# Altium schematic symbol library Sch_GB_lib.SchLib: 489 symbols (part 4 of 5)
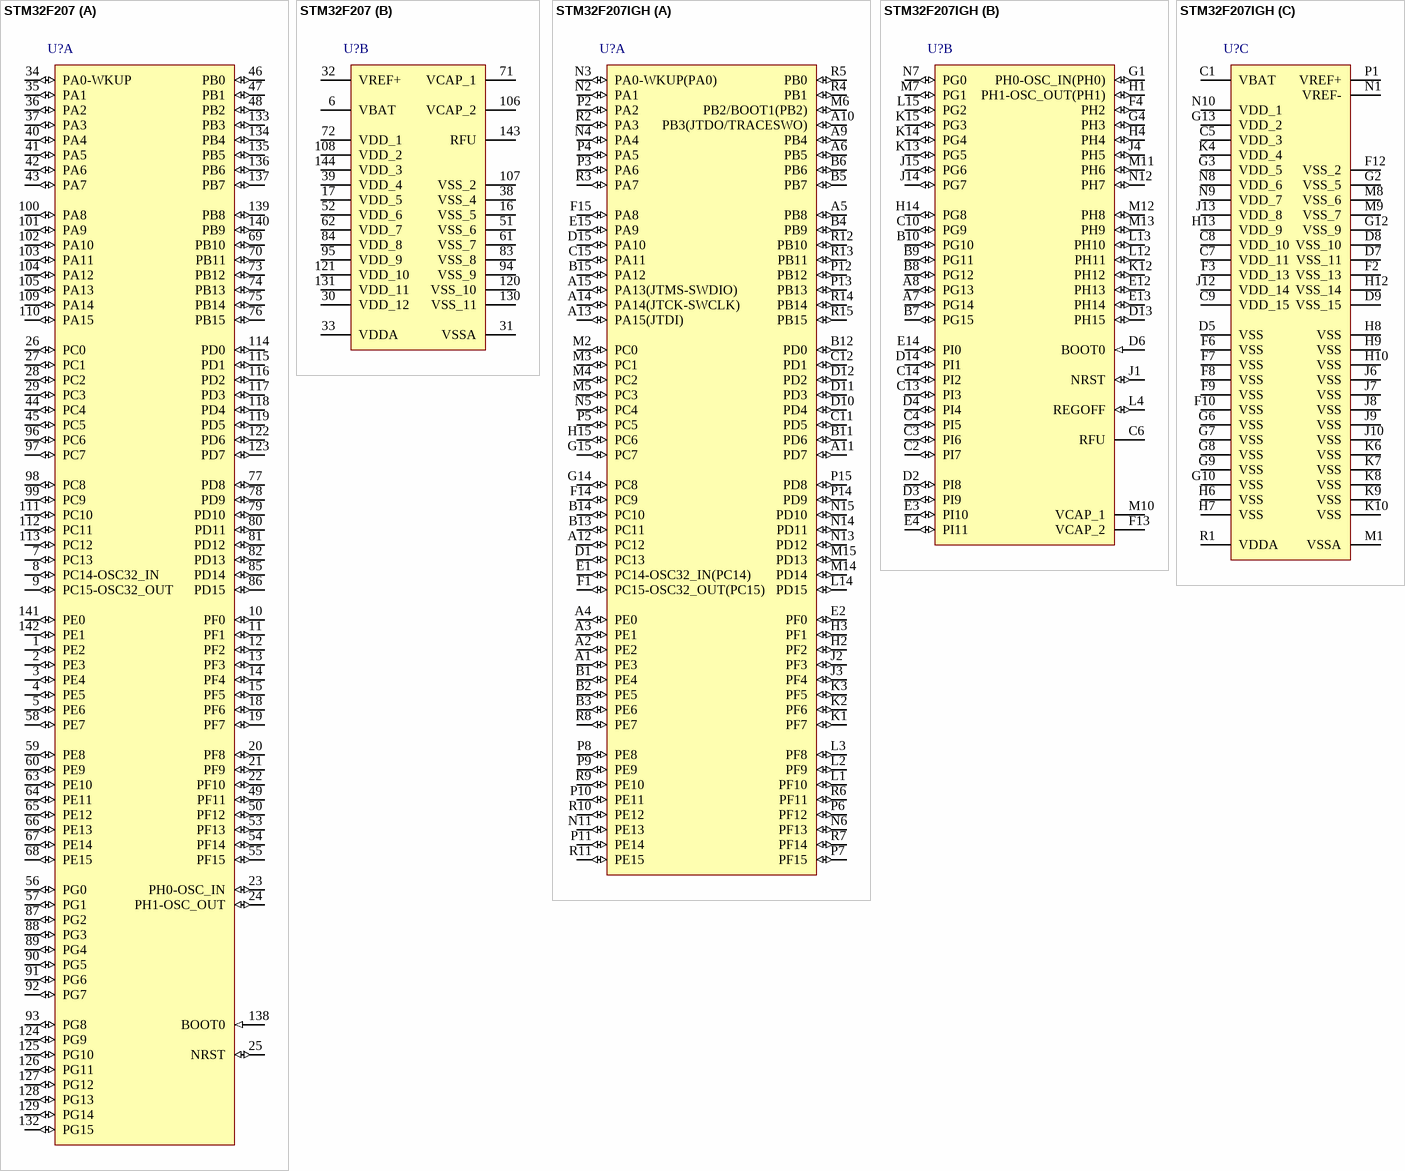
[diagram p20: symbols STM32F207 to STM32F207IGH]

## STM32F207IGH
designator U?
Digikey ref: 497-11168-ND; Farnell ref: 2215222; Digikey ref (secure): 497-11184-ND
footprint UFBGA176 (UFBGA176+25 - ultra thin fine pitch ball grid array 10 × 10 × 0.6 mm)
part A pins: A1 PE3 (io) "PE3/TRACED0/FSMC_A19/EVENTOUT", A2 PE2 (io) "PE2/TRACECLK/FSMC_A23/ETH_MII_TXD3/EVENTOUT", A3 PE1 (io) "PE1/FSMC_NBL1/DCMI_D3/EVENTOUT", A4 PE0 (io) "PE0/TIM4_ETR/FSMC_NBL0/DCMI_D2/EVENTOUT", A5 PB8 (io) "PB8/TIM4_CH3/SDIO_D4/TIM10_CH1/DCMI_D6/ETH_MII_TXD3/I2C1_SCL/CAN1_RX/EVENTOUT", A6 PB5 (io) "PB5/I2C1_SMBA/CAN2_RX/OTG_HS_ULPI_D7/ETH_PPS_OUT/TIM3_CH2/SPI1_MOSI/SPI3_MOSI/DCMI_D10/I2S3_SD/EVENTOUT", A9 PB4 (io) "PB4/NJTRST/SPI3_MISO/TIM3_CH1/SPI1_MISO/EVENTOUT", A10 PB3(JTDO/TRACESWO) (io) "PB3/JTDO/TRACESWO/SPI3_SCK/I2S3_SCK/TIM2_CH2/SPI1_SCK/EVENTOUT", A11 PD7 (io) "PD7/USART2_CK/FSMC_NE1/FSMC_NCE2/EVENTOUT", A12 PC12 (io) "PC12/UART5_TX/SDIO_CK/DCMI_D9/SPI3_MOSI/I2S3_SD/USART3_CK/EVENTOUT", A13 PA15(JTDI) (io) "PA15/JTDI/SPI3_NSS/I2S3_WS/TIM2_CH1_ETR/SPI1_NSS/EVENTOUT", A14 PA14(JTCK-SWCLK) (io) "PA14/JTCK-SWCLK/EVENTOUT", A15 PA13(JTMS-SWDIO) (io) "PA13/JTMS-SWDIO/EVENTOUT", B1 PE4 (io) "PE4/TRACED1/FSMC_A20/DCMI_D4/EVENTOUT", B2 PE5 (io) "PE5/TRACED2/FSMC_A21/TIM9_CH1/DCMI_D6/EVENTOUT", B3 PE6 (io) "PE6/TRACED3/FSMC_A22/TIM9_CH2/DCMI_D7/EVENTOUT", B4 PB9 (io) "PB9/SPI2_NSS/I2S2_WS/TIM4_CH4/TIM11_CH1/SDIO_D5/DCMI_D7/I2C1_SDA/CAN1_TX/EVENTOUT", B5 PB7 (io) "PB7/I2C1_SDA/FSMC_NL/DCMI_VSYNC/USART1_RX/TIM4_CH2/EVENTOUT", B6 PB6 (io) "PB6/I2C1_SCL/TIM4_CH1/CAN2_TX/DCMI_D5/USART1_TX/EVENTOUT", B11 PD6 (io) "PD6/FSMC_NWAIT/USART2_RX/EVENTOUT", B12 PD0 (io) "PD0/FSMC_D2/CAN1_RX/EVENTOUT", B13 PC11 (io) "PC11/UART4_RX/SPI3_MISO/SDIO_D3/DCMI_D4/USART3_RX/EVENTOUT", B14 PC10 (io) "PC10/SPI3_SCK/I2S3_SCK/UART4_TX/SDIO_D2/DCMI_D8/USART3_TX/EVENTOUT", B15 PA12 (io) "PA12/USART1_RTS/CAN1_TX/TIM1_ETR/OTG_FS_DP/EVENTOUT", C11 PD5 (io) "PD5/FSMC_NWE/USART2_TX/EVENTOUT", C12 PD1 (io) "PD1/FSMC_D3/CAN1_TX/EVENTOUT", C15 PA11 (io) "PA11/USART1_CTS/CAN1_RX/TIM1_CH4/OTG_FS_DM/EVENTOUT", D1 PC13 (io) "PC13/EVENTOUT/RTC_AF1", D10 PD4 (io) "PD4/FSMC_NOE/USART2_RTS/EVENTOUT", D11 PD3 (io) "PD3/FSMC_CLK/USART2_CTS/EVENTOUT", D12 PD2 (io) "PD2/TIM3_ETR/UART5_RX/SDIO_CMD/DCMI_D11/EVENTOUT", D15 PA10 (io) "PA10/USART1_RX/TIM1_CH3/OTG_FS_ID/DCMI_D1/EVENTOUT", E1 PC14-OSC32_IN(PC14) (io) "PC14-OSC32_IN/PC14/EVENTOUT/OSC32_IN", E2 PF0 (io) "PF0/FSMC_A0/I2C2_SDA/EVENTOUT", E15 PA9 (io) "PA9/USART1_TX/TIM1_CH2/I2C3_SMBA/DCMI_D0/EVENTOUT/OTG_FS_VBUS", F1 PC15-OSC32_OUT(PC15) (io) "PC15-OSC32_OUT/PC15/EVENTOUT/OSC32_OUT", F14 PC9 (io) "PC9/I2S2_CKIN/I2S3_CKIN/MCO2/TIM8_CH4/SDIO_D1/I2C3_SDA/DCMI_D3/TIM3_CH4/EVENTOUT", F15 PA8 (io) "PA8/MCO1/USART1_CK/TIM1_CH1/I2C3_SCL/OTG_FS_SOF/EVENTOUT", G14 PC8 (io) "PC8/TIM8_CH3/SDIO_D0/TIM3_CH3/USART6_CK/DCMI_D2/EVENTOUT", G15 PC7 (io) "PC7/I2S3_MCK/TIM8_CH2/SDIO_D7/USART6_RX/DCMI_D1/TIM3_CH2/EVENTOUT", H2 PF2 (io) "PF2/FSMC_A2/I2C2_SMBA/EVENTOUT", H3 PF1 (io) "PF1/FSMC_A1/I2C2_SCL/EVENTOUT", H15 PC6 (io) "PC6/I2S2_MCK/TIM8_CH1/SDIO_D6/USART6_TX/DCMI_D0/TIM3_CH1/EVENTOUT", J2 PF3 (io) "PF3/FSMC_A3/EVENTOUT/ADC3_IN9", J3 PF4 (io) "PF4/FSMC_A4/EVENTOUT/ADC3_IN14", K1 PF7 (io) "PF7/TIM11_CH1/FSMC_NREG/EVENTOUT/ADC3_IN5", K2 PF6 (io) "PF6/TIM10_CH1/FSMC_NIORD/EVENTOUT/ADC3_IN4", K3 PF5 (io) "PF5/FSMC_A5/EVENTOUT/ADC3_IN15", L1 PF10 (io) "PF10/FSMC_INTR/EVENTOUT/ADC3_IN8", L2 PF9 (io) "PF9/TIM14_CH1/FSMC_CD/EVENTOUT/ADC3_IN7", L3 PF8 (io) "PF8/TIM13_CH1/FSMC_NIOWR/EVENTOUT/ADC3_IN6", L14 PD15 (io) "PD15/FSMC_D1/TIM4_CH4/EVENTOUT", M2 PC0 (io) "PC0/OTG_HS_ULPI_STP/EVENTOUT/ADC123_IN10", M3 PC1 (io) "PC1/ETH_MDC/EVENTOUT/ADC123_IN11", M4 PC2 (io) "PC2/SPI2_MISO/OTG_HS_ULPI_DIR/ETH_MII_TXD2/EVENTOUT/ADC123_IN12", M5 PC3 (io) "PC3/SPI2_MOSI/I2S2_SD/OTG_HS_ULPI_NXT/ETH_MII_TX_CLK/EVENTOUT/ADC123_IN13", M6 PB2/BOOT1(PB2) (io) "PB2/PB2-BOOT1/EVENTOUT", M14 PD14 (io) "PD14/FSMC_D0/TIM4_CH3/EVENTOUT", M15 PD13 (io) "PD13/FSMC_A18/TIM4_CH2/EVENTOUT", N2 PA1 (io) "PA1/USART2_RTS/UART4_RX/ETH_RMII_REF_CLK/ETH_MII_RX_CLK/TIM5_CH2/TIM2_CH2/EVENTOUT/ADC123_IN1", N3 PA0-WKUP(PA0) (io) "PA0-WKUP(PA0)/USART2_CTS/UART4_TX/ETH_MII_CRS/TIM2_CH1_ETR/TIM5_CH1/TIM8_ETR/EVENTOUT/ADC123_IN0/WKUP", N4 PA4 (io) "PA4/SPI1_NSS/SPI3_NSS/USART2_CK/DCMI_HSYNC/OTG_HS_SOF/I2S3_WS/EVENTOUT/ADC12_IN4/DAC_OUT1", N5 PC4 (io) "PC4/ETH_RMII_RX_D0/ETH_MII_RX_D0/EVENTOUT/ADC12_IN14", N6 PF13 (io) "PF13/FSMC_A7/EVENTOUT", N11 PE13 (io) "PE13/FSMC_D10/TIM1_CH3/EVENTOUT", N13 PD12 (io) "PD12/FSMC_A17/TIM4_CH1/USART3_RTS/EVENTOUT", N14 PD11 (io) "PD11/FSMC_A16/USART3_CTS/EVENTOUT", N15 PD10 (io) "PD10/FSMC_D15/USART3_CK/EVENTOUT", P2 PA2 (io) "PA2/USART2_TX/TIM5_CH3/TIM9_CH1/TIM2_CH3/ETH_MDIO/EVENTOUT/ADC123_IN2", P3 PA6 (io) "PA6/SPI1_MISO/TIM8_BKIN/TIM13_CH1/DCMI_PIXCLK/TIM3_CH1/TIM1_BKIN/EVENTOUT/ADC12_IN6", P4 PA5 (io) "PA5/SPI1_SCK/OTG_HS_ULPI_CK/TIM2_CH1_ETR/TIM8_CH1N/EVENTOUT/ADC12_IN5/DAC_OUT2", P5 PC5 (io) "PC5/ETH_RMII_RX_D1/ETH_MII_RX_D1/EVENTOUT/ADC12_IN15", P6 PF12 (io) "PF12/FSMC_A6/EVENTOUT", P7 PF15 (io) "PF15/FSMC_A9/EVENTOUT", P8 PE8 (io) "PE8/FSMC_D5/TIM1_CH1N/EVENTOUT", P9 PE9 (io) "PE9/FSMC_D6/TIM1_CH1/EVENTOUT", P10 PE11 (io) "PE11/FSMC_D8/TIM1_CH2/EVENTOUT", P11 PE14 (io) "PE14/FSMC_D11/TIM1_CH4/EVENTOUT", P12 PB12 (io) "PB12/SPI2_NSS/I2S2_WS/I2C2_SMBA/USART3_CK/TIM1_BKIN/CAN2_RX/OTG_HS_ULPI_D5/ETH_RMII_TXD0/ETH_MII_TXD0/OTG_HS_ID/EVENTOUT", P13 PB13 (io) "PB13/SPI2_SCK/I2S2_SCK/USART3_CTS/TIM1_CH1N/CAN2_TX/OTG_HS_ULPI_D6/ETH_RMII_TXD1/ETH_MII_TXD1/EVENTOUT/OTG_HS_VBUS", P14 PD9 (io) "PD9/FSMC_D14/USART3_RX/EVENTOUT", P15 PD8 (io) "PD8/FSMC_D13/USART3_TX/EVENTOUT", R2 PA3 (io) "PA3/USART2_RX/TIM5_CH4/TIM9_CH2/TIM2_CH4/OTG_HS_ULPI_D0/ETH_MII_COL/EVENTOUT/ADC123_IN3", R3 PA7 (io) "PA7/SPI1_MOSI/TIM8_CH1N/TIM14_CH1/TIM3_CH2/ETH_MII_RX_DV/TIM1_CH1N/RMII_CRS_DV/EVENTOUT/ADC12_IN7", R4 PB1 (io) "PB1/TIM3_CH4/TIM8_CH3N/OTG_HS_ULPI_D2/ETH_MII_RXD3/TIM1_CH3N/EVENTOUT/ADC12_IN9", R5 PB0 (io) "PB0/TIM3_CH3/TIM8_CH2N/OTG_HS_ULPI_D1/ETH_MII_RXD2/TIM1_CH2N/EVENTOUT/ADC12_IN8", R6 PF11 (io) "PF11/DCMI_12/EVENTOUT", R7 PF14 (io) "PF14/FSMC_A8/EVENTOUT", R8 PE7 (io) "PE7/FSMC_D4/TIM1_ETR/EVENTOUT", R9 PE10 (io) "PE10/FSMC_D7/TIM1_CH2N/EVENTOUT", R10 PE12 (io) "PE12/FSMC_D9/TIM1_CH3N/EVENTOUT", R11 PE15 (io) "PE15/FSMC_D12/TIM1_BKIN/EVENTOUT", R12 PB10 (io) "PB10/SPI2_SCK/I2S2_SCK/I2C2_SCL/USART3_TX/OTG_HS_ULPI_D3/ETH_MII_RX_ER/TIM2_CH3/EVENTOUT", R13 PB11 (io) "PB11/I2C2_SDA/USART3_RX/OTG_HS_ULPI_D4/ETH_RMII_TX_EN/ETH_MII_TX_EN/TIM2_CH4/EVENTOUT", R14 PB14 (io) "PB14/SPI2_MISO/TIM1_CH2N/TIM12_CH1/OTG_HS_DM/USART3_RTS/TIM8_CH2N/EVENTOUT", R15 PB15 (io) "PB15/SPI2_MOSI/I2S2_SD/TIM1_CH3N/TIM8_CH3N/TIM12_CH2/OTG_HS_DP/RTC_50Hz/EVENTOUT"
part B pins: A7 PG14 (io) "PG14/FSMC_A25/USART6_TX/ETH_MII_TXD1/ETH_RMII_TXD1/EVENTOUT", A8 PG13 (io) "PG13/FSMC_A24/USART6_CTS/ETH_MII_TXD0/ETH_RMII_TXD0/EVENTOUT", B7 PG15 (io) "PG15/USART6_CTS/DCMI_D13/EVENTOUT", B8 PG12 (io) "PG12/FSMC_NE4/USART6_RTS/EVENTOUT", B9 PG11 (io) "PG11/FSMC_NCE4_2/ETH_MII_TX_EN/ETH_RMII_TX_EN/EVENTOUT", B10 PG10 (io) "PG10/FSMC_NCE4_1/FSMC_NE3/EVENTOUT", C2 PI7 (io) "PI7/TIM8_CH3/DCMI_D7/EVENTOUT", C3 PI6 (io) "PI6/TIM8_CH2/DCMI_D6/EVENTOUT", C4 PI5 (io) "PI5/TIM8_CH1/DCMI_VSYNC/EVENTOUT", C6 RFU, C10 PG9 (io) "PG9/USART6_RX/FSMC_NE2/FSMC_NCE3/EVENTOUT", C13 PI3 (io) "PI3/TIM8_ETR/SPI2_MOSI/I2S2_SD/DCMI_D10/EVENTOUT", C14 PI2 (io) "PI2/TIM8_CH4/SPI2_MISO/DCMI_D9/EVENTOUT", D2 PI8 (io) "PI8/EVENTOUT/RTC_AF2", D3 PI9 (io) "PI9/CAN1_RX/EVENTOUT", D4 PI4 (io) "PI4/TIM8_BKIN/DCMI_D5/EVENTOUT", D6 BOOT0 (in) "BOOT0/VPP", D13 PH15 (io) "PH15/TIM8_CH3N/DCMI_D11/EVENTOUT", D14 PI1 (io) "PI1/SPI2_SCK/I2S2_SCK/DCMI_D8/EVENTOUT", E3 PI10 (io) "PI10/ETH_MII_RX_ER/EVENTOUT", E4 PI11 (io) "PI11/OTG_HS_ULPI_DIR/EVENTOUT", E12 PH13 (io) "PH13/TIM8_CH1N/CAN1_TX/EVENTOUT", E13 PH14 (io) "PH14/TIM8_CH2N/DCMI_D4/EVENTOUT", E14 PI0 (io) "PI0/TIM5_CH4/SPI2_NSS/I2S2_WS/DCMI_D13/EVENTOUT", F4 PH2 (io) "PH2/ETH_MII_CRS/EVENTOUT", F13 VCAP_2 (power), G1 PH0-OSC_IN(PH0) (io) "PH0-OSC_IN(PH0)/PH0/EVENTOUT/OSC_IN", G4 PH3 (io) "PH3/ETH_MII_COL/EVENTOUT", H1 PH1-OSC_OUT(PH1) (io) "PH1-OSC_OUT(PH1)/PH1/EVENTOUT/OSC_OUT", H4 PH4 (io) "PH4/I2C2_SCL/OTG_HS_ULPI_NXT/EVENTOUT", H14 PG8 (io) "PG8/USART6_RTS/ETH_PPS_OUT/EVENTOUT", J1 NRST (io), J4 PH5 (io) "PH5/I2C2_SDA/EVENTOUT", J14 PG7 (io) "PG7/FSMC_INT3/USART6_CK/EVENTOUT", J15 PG6 (io) "PG6/FSMC_INT2/EVENTOUT", K12 PH12 (io) "PH12/TIM5_CH3/DCMI_D3/EVENTOUT", K13 PG5 (io) "PG5/FSMC_A15/EVENTOUT", K14 PG4 (io) "PG4/FSMC_A14/EVENTOUT", K15 PG3 (io) "PG3/FSMC_A13/EVENTOUT", L4 REGOFF (io), L12 PH11 (io) "PH11/TIM5_CH2/DCMI_D2/EVENTOUT", L13 PH10 (io) "PH10/TIM5_CH1/DCMI_D1/EVENTOUT", L15 PG2 (io) "PG2/FSMC_A12/EVENTOUT", M7 PG1 (io) "PG1/FSMC_A11/EVENTOUT", M10 VCAP_1 (power), M11 PH6 (io) "PH6/I2C2_SMBA/TIM12_CH1/ETH_MII_RXD2/EVENTOUT", M12 PH8 (io) "PH8/I2C3_SDA/DCMI_HSYNC/EVENTOUT", M13 PH9 (io) "PH9/I2C3_SMBA/TIM12_CH2/DCMI_D0/EVENTOUT", N7 PG0 (io) "PG0/FSMC_A10/EVENTOUT", N12 PH7 (io) "PH7/I2C3_SCL/ETH_MII_RXD3/EVENTOUT"
part C pins: C1 VBAT (power), C5 VDD_3 (power), C7 VDD_11 (power), C8 VDD_10 (power), C9 VDD_15 (power), D5 VSS (power), D7 VSS_11 (power), D8 VSS_10 (power), D9 VSS_15 (power), F2 VSS_13 (power), F3 VDD_13 (power), F6 VSS (power), F7 VSS (power), F8 VSS (power), F9 VSS (power), F10 VSS (power), F12 VSS_2 (power), G2 VSS_5 (power), G3 VDD_5 (power), G6 VSS (power), G7 VSS (power), G8 VSS (power), G9 VSS (power), G10 VSS (power), G12 VSS_9 (power), G13 VDD_2 (power), H6 VSS (power), H7 VSS (power), H8 VSS (power), H9 VSS (power), H10 VSS (power), H12 VSS_14 (power), H13 VDD_9 (power), J6 VSS (power), J7 VSS (power), J8 VSS (power), J9 VSS (power), J10 VSS (power), J12 VDD_14 (power), J13 VDD_8 (power), K4 VDD_4 (power), K6 VSS (power), K7 VSS (power), K8 VSS (power), K9 VSS (power), K10 VSS (power), M1 VSSA (power), M8 VSS_6 (power), M9 VSS_7 (power), N1 VREF- (power), N8 VDD_6 (power), N9 VDD_7 (power), N10 VDD_1 (power), P1 VREF+ (power), R1 VDDA (power)

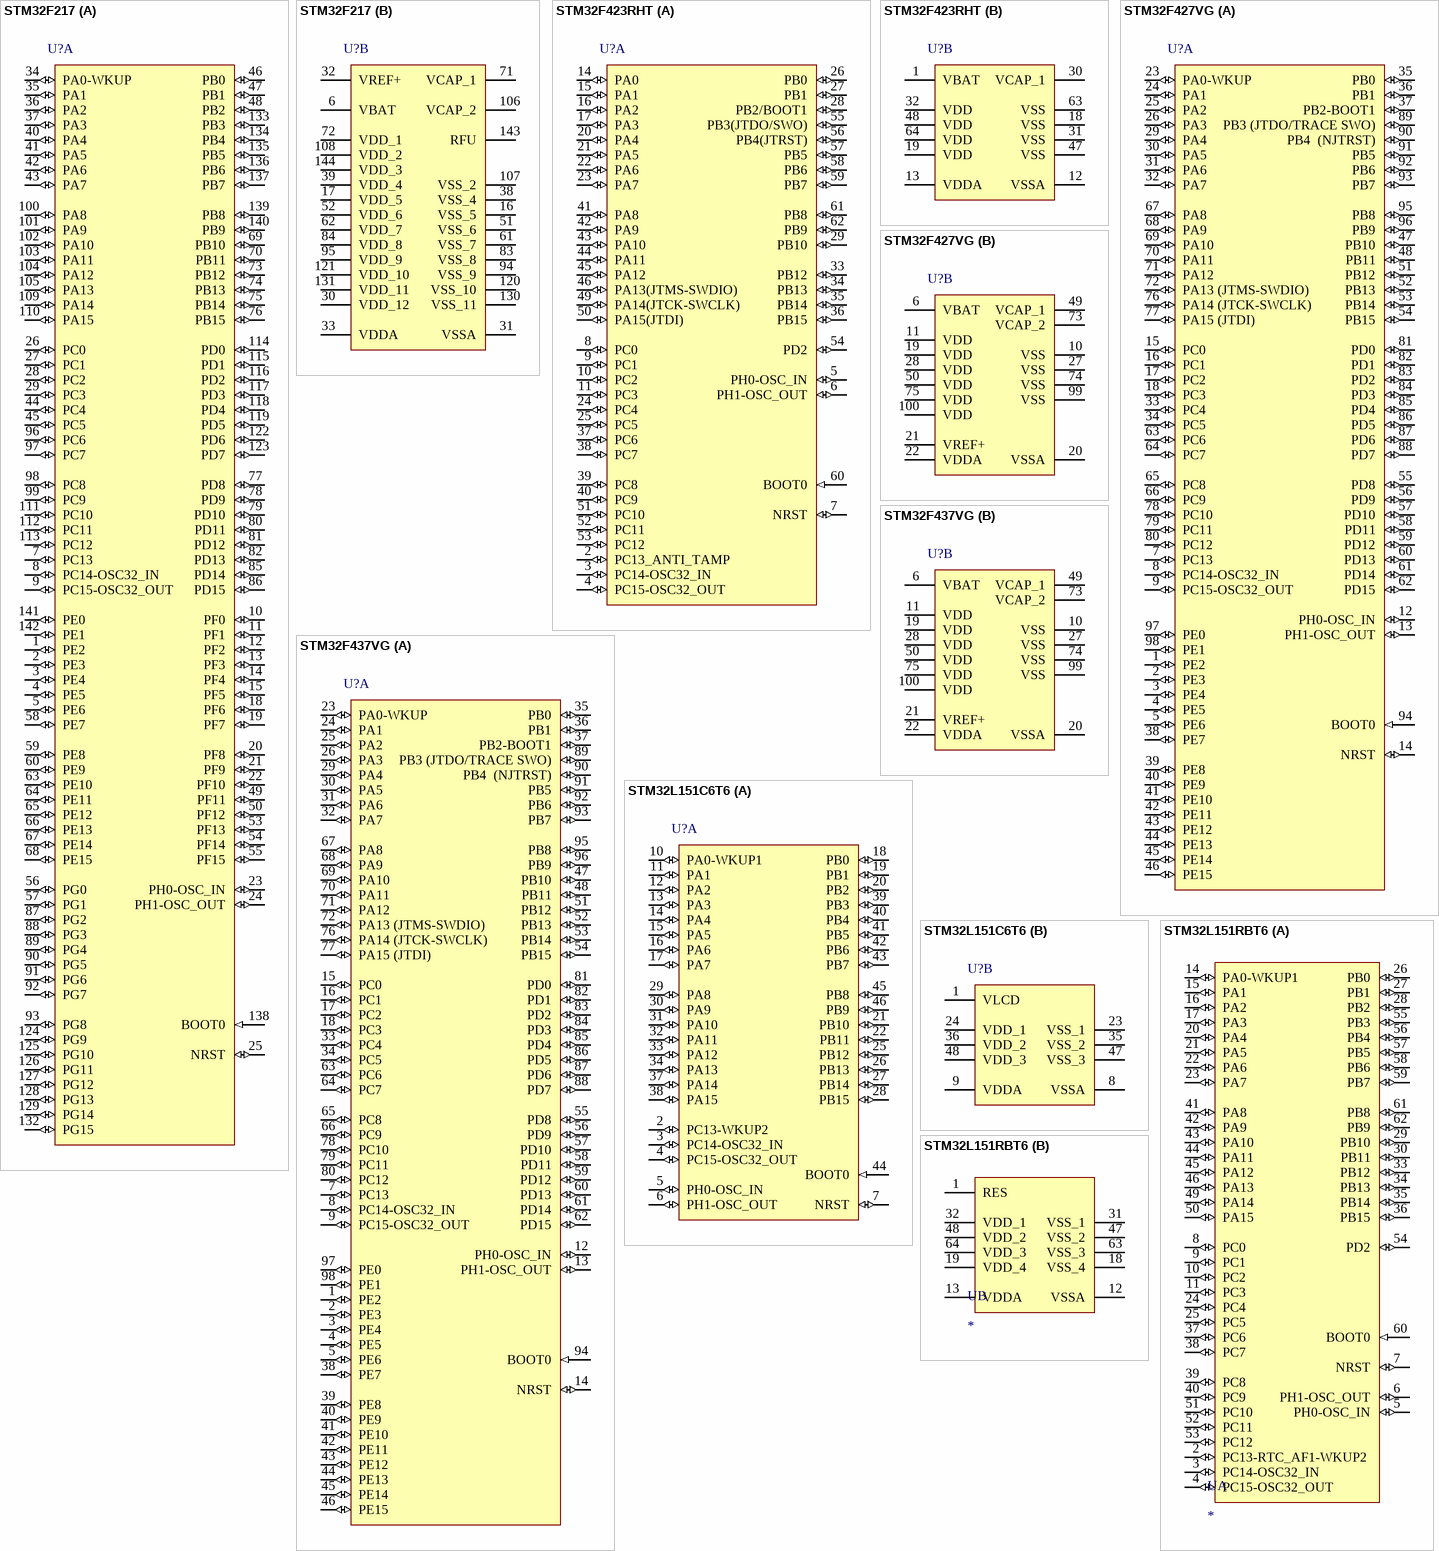
[diagram p15: symbols STM32F217 to STM32L151RBT6]

## STM32F217
designator U?
Farnell ref: 2333245; Digikey ref: *
footprint LQFP144_N (Thin QFP, 144-Leads, Body 20x20mm, Pitch 0.5mm, IPC Medium Density)
part A pins: 1 PE2 (io), 2 PE3 (io), 3 PE4 (io), 4 PE5 (io), 5 PE6 (io), 7 PC13 (io), 8 PC14-OSC32_IN (io), 9 PC15-OSC32_OUT (io), 10 PF0 (io), 11 PF1 (io), 12 PF2 (io), 13 PF3 (io), 14 PF4 (io), 15 PF5 (io), 18 PF6 (io), 19 PF7 (io), 20 PF8 (io), 21 PF9 (io), 22 PF10 (io), 23 PH0-OSC_IN (io), 24 PH1-OSC_OUT (io), 25 NRST (io), 26 PC0 (io), 27 PC1 (io), 28 PC2 (io), 29 PC3 (io), 34 PA0-WKUP (io), 35 PA1 (io), 36 PA2 (io), 37 PA3 (io), 40 PA4 (io), 41 PA5 (io), 42 PA6 (io), 43 PA7 (io), 44 PC4 (io), 45 PC5 (io), 46 PB0 (io), 47 PB1 (io), 48 PB2 (io), 49 PF11 (io), 50 PF12 (io), 53 PF13 (io), 54 PF14 (io), 55 PF15 (io), 56 PG0 (io), 57 PG1 (io), 58 PE7 (io), 59 PE8 (io), 60 PE9 (io), 63 PE10 (io), 64 PE11 (io), 65 PE12 (io), 66 PE13 (io), 67 PE14 (io), 68 PE15 (io), 69 PB10 (io), 70 PB11 (io), 73 PB12 (io), 74 PB13 (io), 75 PB14 (io), 76 PB15 (io), 77 PD8 (io), 78 PD9 (io), 79 PD10 (io), 80 PD11 (io), 81 PD12 (io), 82 PD13 (io), 85 PD14 (io), 86 PD15 (io), 87 PG2 (io), 88 PG3 (io), 89 PG4 (io), 90 PG5 (io), 91 PG6 (io), 92 PG7 (io), 93 PG8 (io), 96 PC6 (io), 97 PC7 (io), 98 PC8 (io), 99 PC9 (io), 100 PA8 (io), 101 PA9 (io), 102 PA10 (io), 103 PA11 (io), 104 PA12 (io), 105 PA13 (io), 109 PA14 (io), 110 PA15 (io), 111 PC10 (io), 112 PC11 (io), 113 PC12 (io), 114 PD0 (io), 115 PD1 (io), 116 PD2 (io), 117 PD3 (io), 118 PD4 (io), 119 PD5 (io), 122 PD6 (io), 123 PD7 (io), 124 PG9 (io), 125 PG10 (io), 126 PG11 (io), 127 PG12 (io), 128 PG13 (io), 129 PG14 (io), 132 PG15 (io), 133 PB3 (io), 134 PB4 (io), 135 PB5 (io), 136 PB6 (io), 137 PB7 (io), 138 BOOT0 (in), 139 PB8 (io), 140 PB9 (io), 141 PE0 (io), 142 PE1 (io)
part B pins: 6 VBAT (power), 16 VSS_5 (power), 17 VDD_5 (power), 30 VDD_12 (power), 31 VSSA (power), 32 VREF+ (power), 33 VDDA (power), 38 VSS_4 (power), 39 VDD_4 (power), 51 VSS_6 (power), 52 VDD_6 (power), 61 VSS_7 (power), 62 VDD_7 (power), 71 VCAP_1, 72 VDD_1 (power), 83 VSS_8 (power), 84 VDD_8 (power), 94 VSS_9 (power), 95 VDD_9 (power), 106 VCAP_2, 107 VSS_2 (power), 108 VDD_2 (power), 120 VSS_10 (power), 121 VDD_10 (power), 130 VSS_11 (power), 131 VDD_11 (power), 143 RFU, 144 VDD_3 (power)

## STM32F423RHT
designator U?
footprint LQFP64 (Thin QFP, 64-Leads, Body 10x10mm, Pitch 0.5mm, IPC Medium Density)
part A pins: 2 PC13_ANTI_TAMP (io) "PC13/EVENTOUT/RTC_AF1", 3 PC14-OSC32_IN (io) "PC14-OSC32_IN/PC14/EVENTOUT/OSC32_IN", 4 PC15-OSC32_OUT (io) "PC15-OSC32_OUT/PC15/EVENTOUT/OSC32_OUT", 5 PH0-OSC_IN (io) "PH0-OSC_IN(PH0)/PH0/EVENTOUT/OSC_IN", 6 PH1-OSC_OUT (io) "PH1-OSC_OUT(PH1)/PH1/EVENTOUT/OSC_OUT", 7 NRST (io), 8 PC0 (io) "PC0/OTG_HS_ULPI_STP/EVENTOUT/ADC123_IN10", 9 PC1 (io) "PC1/ETH_MDC/EVENTOUT/ADC123_IN11", 10 PC2 (io) "PC2/SPI2_MISO/OTG_HS_ULPI_DIR/ETH_MII_TXD2/EVENTOUT/ADC123_IN12", 11 PC3 (io) "PC3/SPI2_MOSI/I2S2_SD/OTG_HS_ULPI_NXT/ETH_MII_TX_CLK/EVENTOUT/ADC123_IN13", 14 PA0 (io) "PA0-WKUP(PA0)/USART2_CTS/UART4_TX/ETH_MII_CRS/TIM2_CH1_ETR/TIM5_CH1/TIM8_ETR/EVENTOUT/ADC123_IN0/WKUP", 15 PA1 (io) "PA1/USART2_RTS/UART4_RX/ETH_RMII_REF_CLK/ETH_MII_RX_CLK/TIM5_CH2/TIM2_CH2/EVENTOUT/ADC123_IN1", 16 PA2 (io) "PA2/USART2_TX/TIM5_CH3/TIM9_CH1/TIM2_CH3/ETH_MDIO/EVENTOUT/ADC123_IN2", 17 PA3 (io) "PA3/USART2_RX/TIM5_CH4/TIM9_CH2/TIM2_CH4/OTG_HS_ULPI_D0/ETH_MII_COL/EVENTOUT/ADC123_IN3", 20 PA4 (io) "PA4/SPI1_NSS/SPI3_NSS/USART2_CK/DCMI_HSYNC/OTG_HS_SOF/I2S3_WS/EVENTOUT/ADC12_IN4/DAC_OUT1", 21 PA5 (io) "PA5/SPI1_SCK/OTG_HS_ULPI_CK/TIM2_CH1_ETR/TIM8_CH1N/EVENTOUT/ADC12_IN5/DAC_OUT2", 22 PA6 (io) "PA6/SPI1_MISO/TIM8_BKIN/TIM13_CH1/DCMI_PIXCLK/TIM3_CH1/TIM1_BKIN/EVENTOUT/ADC12_IN6", 23 PA7 (io) "PA7/SPI1_MOSI/TIM8_CH1N/TIM14_CH1/TIM3_CH2/ETH_MII_RX_DV/TIM1_CH1N/RMII_CRS_DV/EVENTOUT/ADC12_IN7", 24 PC4 (io) "PC4/ETH_RMII_RX_D0/ETH_MII_RX_D0/EVENTOUT/ADC12_IN14", 25 PC5 (io) "PC5/ETH_RMII_RX_D1/ETH_MII_RX_D1/EVENTOUT/ADC12_IN15", 26 PB0 (io) "PB0/TIM3_CH3/TIM8_CH2N/OTG_HS_ULPI_D1/ETH_MII_RXD2/TIM1_CH2N/EVENTOUT/ADC12_IN8", 27 PB1 (io) "PB1/TIM3_CH4/TIM8_CH3N/OTG_HS_ULPI_D2/ETH_MII_RXD3/TIM1_CH3N/EVENTOUT/ADC12_IN9", 28 PB2/BOOT1 (io) "PB2/PB2-BOOT1/EVENTOUT", 29 PB10 (io) "PB10/SPI2_SCK/I2S2_SCK/I2C2_SCL/USART3_TX/OTG_HS_ULPI_D3/ETH_MII_RX_ER/TIM2_CH3/EVENTOUT", 33 PB12 (io) "PB12/SPI2_NSS/I2S2_WS/I2C2_SMBA/USART3_CK/TIM1_BKIN/CAN2_RX/OTG_HS_ULPI_D5/ETH_RMII_TXD0/ETH_MII_TXD0/OTG_HS_ID/EVENTOUT", 34 PB13 (io) "PB13/SPI2_SCK/I2S2_SCK/USART3_CTS/TIM1_CH1N/CAN2_TX/OTG_HS_ULPI_D6/ETH_RMII_TXD1/ETH_MII_TXD1/EVENTOUT/OTG_HS_VBUS", 35 PB14 (io) "PB14/SPI2_MISO/TIM1_CH2N/TIM12_CH1/OTG_HS_DM/USART3_RTS/TIM8_CH2N/EVENTOUT", 36 PB15 (io) "PB15/SPI2_MOSI/I2S2_SD/TIM1_CH3N/TIM8_CH3N/TIM12_CH2/OTG_HS_DP/RTC_50Hz/EVENTOUT", 37 PC6 (io) "PC6/I2S2_MCK/TIM8_CH1/SDIO_D6/USART6_TX/DCMI_D0/TIM3_CH1/EVENTOUT", 38 PC7 (io) "PC7/I2S3_MCK/TIM8_CH2/SDIO_D7/USART6_RX/DCMI_D1/TIM3_CH2/EVENTOUT", 39 PC8 (io) "PC8/TIM8_CH3/SDIO_D0/TIM3_CH3/USART6_CK/DCMI_D2/EVENTOUT", 40 PC9 (io) "PC9/I2S2_CKIN/I2S3_CKIN/MCO2/TIM8_CH4/SDIO_D1/I2C3_SDA/DCMI_D3/TIM3_CH4/EVENTOUT", 41 PA8 (io) "PA8/MCO1/USART1_CK/TIM1_CH1/I2C3_SCL/OTG_FS_SOF/EVENTOUT", 42 PA9 (io) "PA9/USART1_TX/TIM1_CH2/I2C3_SMBA/DCMI_D0/EVENTOUT/OTG_FS_VBUS", 43 PA10 (io) "PA10/USART1_RX/TIM1_CH3/OTG_FS_ID/DCMI_D1/EVENTOUT", 44 PA11 (io) "PA11/USART1_CTS/CAN1_RX/TIM1_CH4/OTG_FS_DM/EVENTOUT", 45 PA12 (io) "PA12/USART1_RTS/CAN1_TX/TIM1_ETR/OTG_FS_DP/EVENTOUT", 46 PA13(JTMS-SWDIO) (io) "PA13/JTMS-SWDIO/EVENTOUT", 49 PA14(JTCK-SWCLK) (io) "PA14/JTCK-SWCLK/EVENTOUT", 50 PA15(JTDI) (io) "PA15/JTDI/SPI3_NSS/I2S3_WS/TIM2_CH1_ETR/SPI1_NSS/EVENTOUT", 51 PC10 (io) "PC10/SPI3_SCK/I2S3_SCK/UART4_TX/SDIO_D2/DCMI_D8/USART3_TX/EVENTOUT", 52 PC11 (io) "PC11/UART4_RX/SPI3_MISO/SDIO_D3/DCMI_D4/USART3_RX/EVENTOUT", 53 PC12 (io) "PC12/UART5_TX/SDIO_CK/DCMI_D9/SPI3_MOSI/I2S3_SD/USART3_CK/EVENTOUT", 54 PD2 (io) "PD2/TIM3_ETR/UART5_RX/SDIO_CMD/DCMI_D11/EVENTOUT", 55 PB3(JTDO/SWO) (io) "PB3/JTDO/TRACESWO/SPI3_SCK/I2S3_SCK/TIM2_CH2/SPI1_SCK/EVENTOUT", 56 PB4(JTRST) (io) "PB4/NJTRST/SPI3_MISO/TIM3_CH1/SPI1_MISO/EVENTOUT", 57 PB5 (io) "PB5/I2C1_SMBA/CAN2_RX/OTG_HS_ULPI_D7/ETH_PPS_OUT/TIM3_CH2/SPI1_MOSI/SPI3_MOSI/DCMI_D10/I2S3_SD/EVENTOUT", 58 PB6 (io) "PB6/I2C1_SCL/TIM4_CH1/CAN2_TX/DCMI_D5/USART1_TX/EVENTOUT", 59 PB7 (io) "PB7/I2C1_SDA/FSMC_NL/DCMI_VSYNC/USART1_RX/TIM4_CH2/EVENTOUT", 60 BOOT0 (in) "BOOT0/VPP", 61 PB8 (io) "PB8/TIM4_CH3/SDIO_D4/TIM10_CH1/DCMI_D6/ETH_MII_TXD3/I2C1_SCL/CAN1_RX/EVENTOUT", 62 PB9 (io) "PB9/SPI2_NSS/I2S2_WS/TIM4_CH4/TIM11_CH1/SDIO_D5/DCMI_D7/I2C1_SDA/CAN1_TX/EVENTOUT"
part B pins: 1 VBAT (power), 12 VSSA (power), 13 VDDA (power), 18 VSS (power) "VSS_4", 19 VDD (power) "VDD_4", 30 VCAP_1 (power), 31 VSS (power) "VSS_4", 32 VDD (power) "VDD_1", 47 VSS (power) "VCAP_2", 48 VDD (power) "VDD_2", 63 VSS (power) "VSS_3", 64 VDD (power) "VDD_3"

## STM32F427VG
designator U?
IC MCU 32BIT 1MB FLASH 100LQFP; Manufacturer PartNum: STM32F427VGT6; Manufacturer: STMicroelectronics; Digikey ref: 497-17449-ND
footprint STM-LQFP100_N (Thin QFP, 100-Leads, Body 14x14mm, Pitch 0.5mm, IPC Medium Density)
part A pins: 1 PE2 (io) "TRACECLK,  SPI4_SCK,  SAI1_MCLK_A,  ETH_MII_TXD3,  FMC_A23, EVENTOUT", 2 PE3 (io) "TRACED0,  SAI1_SD_B, FMC_A19,  EVENTOUT", 3 PE4 (io) "TRACED1, SPI4_NSS,  SAI1_FS_A, FMC_A20,  DCMI_D4, LCD_B0,  EVENTOUT", 4 PE5 (io) "TRACED2, TIM9_CH1,  SPI4_MISO,  SAI1_SCK_A,  FMC_A21, DCMI_D6,  LCD_G0, EVENTOUT", 5 PE6 (io) "TRACED3, TIM9_CH2,  SPI4_MOSI,  SAI1_SD_A, FMC_A22,  DCMI_D7, LCD_G1,  EVENTOUT", 7 PC13 (io) "EVENTOUT", 8 PC14-OSC32_IN (io) "EVENTOUT", 9 PC15-OSC32_OUT (io) "EVENTOUT", 12 PH0-OSC_IN (io) "EVENTOUT", 13 PH1-OSC_OUT (io) "EVENTOUT", 14 NRST (io), 15 PC0 (io) "OTG_HS_ULPI_STP,  FMC_SDNWE,  EVENTOUT", 16 PC1 (io) "ETH_MDC,  EVENTOUT", 17 PC2 (io) "SPI2_MISO,  I2S2ext_SD,  OTG_HS_ULPI_DIR,  ETH_MII_TXD2,  FMC_SDNE0,  EVENTOUT", 18 PC3 (io) "SPI2_MOSI/I2S2_SD,  OTG_HS_ULPI_NXT,  ETH_MII_TX_CLK,  FMC_SDCKE0,  EVENTOUT", 23 PA0-WKUP (io) "TIM2_CH1/TIM2_ETR,  TIM5_CH1, TIM8_ETR,  USART2_CTS,  UART4_TX,  ETH_MII_CRS,  EVENTOUT", 24 PA1 (io) "TIM2_CH2, TIM5_CH2,  USART2_RTS,  UART4_RX,  ETH_MII_RX_CLK/ETH  _RMII_REF_CLK,  EVENTOUT", 25 PA2 (io) "TIM2_CH3, TIM5_CH3,  TIM9_CH1,  USART2_TX,  ETH_MDIO,  EVENTOUT", 26 PA3 (io) "TIM2_CH4, TIM5_CH4,  TIM9_CH2,  USART2_RX,  OTG_HS_ULPI_D0,  ETH_MII_COL,  LCD_B5, EVENTOUT", 29 PA4 (io) "SPI1_NSS,  SPI3_NSS/I2S3_WS,  USART2_CK,  OTG_HS_SOF,  DCMI_HSYNC,  LCD_VSYNC,  EVENTOUT", 30 PA5 (io) "TIM2_CH1/TIM2_ETR,  TIM8_CH1N,  SPI1_SCK,  OTG_HS_ULPI_CK,  EVENTOUT", 31 PA6 (io) "TIM1_BKIN,  TIM3_CH1,  TIM8_BKIN,  SPI1_MISO,  TIM13_CH1,  DCMI_PIXCLK,  LCD_G2, EVENTOUT", 32 PA7 (io) "TIM1_CH1N,  TIM3_CH2,  TIM8_CH1N,  SPI1_MOSI,  TIM14_CH1,  ETH_MII_RX_DV/ETH_  RMII_CRS_DV,  EVENTOUT", 33 PC4 (io) "ETH_MII_RXD0/ETH_  RMII_RXD0,  EVENTOUT", 34 PC5 (io) "ETH_MII_RXD1/ETH_  RMII_RXD1,  EVENTOUT", 35 PB0 (io) "TIM1_CH2N,  TIM3_CH3,  TIM8_CH2N, LCD_R3,  OTG_HS_ULPI_D1,  ETH_MII_RXD2,  EVENTOUT", 36 PB1 (io) "TIM1_CH3N,  TIM3_CH4,  TIM8_CH3N, LCD_R6,  OTG_HS_ULPI_D2,  ETH_MII_RXD3,  EVENTOUT", 37 PB2-BOOT1 (io) "TIM1_CH3N,  TIM3_CH4,  TIM8_CH3NEVENTOUT", 38 PE7 (io) "TIM1_ETR, UART7_Rx,  FMC_D4, EVENTOUT", 39 PE8 (io) "TIM1_CH1N,  UART7_Tx, FMC_D5,  EVENTOUT", 40 PE9 (io) "TIM1_CH1, FMC_D6,  EVENTOUT", 41 PE10 (io) "TIM1_CH2N, FMC_D7,  EVENTOUT", 42 PE11 (io) "TIM1_CH2, SPI4_NSS,  FMC_D8, LCD_G3,  EVENTOUT", 43 PE12 (io) "TIM1_CH3N,  SPI4_SCK, FMC_D9,  LCD_B4, EVENTOUT", 44 PE13 (io) "TIM1_CH3,  SPI4_MISO, FMC_D10,  LCD_DE, EVENTOUT", 45 PE14 (io) "TIM1_CH4,  SPI4_MOSI, FMC_D11,  LCD_CLK, EVENTOUT", 46 PE15 (io) "TIM1_BKIN, FMC_D12,  LCD_R7, EVENTOUT", 47 PB10 (io) "TIM2_CH3, I2C2_SCL,  SPI2_SCK/I2S2_CK,  USART3_TX,  OTG_HS_ULPI_D3,  ETH_MII_RX_ER,  LCD_G4, EVENTOUT", 48 PB11 (io) "TIM2_CH4, I2C2_SDA,  USART3_RX,  OTG_HS_ULPI_D4,  ETH_MII_TX_EN/ETH_  RMII_TX_EN, LCD_G5,  EVENTOUT", 51 PB12 (io) "TIM1_BKIN,  I2C2_SMBA,  SPI2_NSS/I2S2_WS,  USART3_CK,  CAN2_RX,  OTG_HS_ULPI_D5,  ETH_MII_TXD0/ETH_R  MII_TXD0,  OTG_HS_ID,  EVENTOUT", 52 PB13 (io) "TIM1_CH1N,  SPI2_SCK/I2S2_CK,  USART3_CTS,  CAN2_TX,  OTG_HS_ULPI_D6,  ETH_MII_TXD1/ETH_R  MII_TXD1, EVENTOUT", 53 PB14 (io) "TIM1_CH2N,  TIM8_CH2N,  SPI2_MISO,  I2S2ext_SD,  USART3_RTS,  TIM12_CH1,  OTG_HS_DM,  EVENTOUT", 54 PB15 (io) "RTC_REFIN,  TIM1_CH3N,  TIM8_CH3N,  SPI2_MOSI/I2S2_SD,  TIM12_CH2,  OTG_HS_DP,  EVENTOUT", 55 PD8 (io) "USART3_TX,  FMC_D13, EVENTOUT", 56 PD9 (io) "USART3_RX,  FMC_D14, EVENTOUT", 57 PD10 (io) "USART3_CK,  FMC_D15, LCD_B3,  EVENTOUT", 58 PD11 (io) "USART3_CTS,  FMC_A16, EVENTOUT", 59 PD12 (io) "TIM4_CH1,  USART3_RTS,  FMC_A17, EVENTOUT", 60 PD13 (io) "TIM4_CH2, FMC_A18,  EVENTOUT", 61 PD14 (io) "TIM4_CH3, FMC_D0,  EVENTOUT", 62 PD15 (io) "TIM4_CH4, FMC_D1,  EVENTOUT", 63 PC6 (io) "TIM3_CH1, TIM8_CH1,  I2S2_MCK,  USART6_TX,  SDIO_D6, DCMI_D0,  LCD_HSYNC,  EVENTOUT", 64 PC7 (io) "TIM3_CH2, TIM8_CH2,  I2S3_MCK,  USART6_RX,  SDIO_D7, DCMI_D1,  LCD_G6, EVENTOUT", 65 PC8 (io) "TIM3_CH3, TIM8_CH3,  USART6_CK,  SDIO_D0, DCMI_D2,  EVENTOUT", 66 PC9 (io) "MCO2, TIM3_CH4,  TIM8_CH4, I2C3_SDA,  I2S_CKIN, SDIO_D1,  DCMI_D3, EVENTOUT", 67 PA8 (io) "MCO1, TIM1_CH1,  I2C3_SCL,  USART1_CK,  OTG_FS_SOF,  LCD_R6, EVENTOUT", 68 PA9 (io) "TIM1_CH2,  I2C3_SMBA,  USART1_TX,  DCMI_D0, EVENTOUT", 69 PA10 (io) "TIM1_CH3,  USART1_RX,  OTG_FS_ID,  DCMI_D1, EVENTOUT", 70 PA11 (io) "TIM1_CH4,  USART1_CTS,  CAN1_RX, LCD_R4,  OTG_FS_DM,  EVENTOUT", 71 PA12 (io) "TIM1_ETR,  USART1_RTS,  CAN1_TX, LCD_R5,  OTG_FS_DP,  EVENTOUT", 72 PA13 (JTMS-SWDIO) (io) "JTMS-SWDIO,  EVENTOUT", 76 PA14 (JTCK-SWCLK) (io) "JTCK-SWCLK/  EVENTOUT", 77 PA15 (JTDI) (io) "JTDI,  TIM2_CH1/TIM2_ETR,  SPI1_NSS,  SPI3_NSS/I2S3_WS,  EVENTOUT", 78 PC10 (io) "SPI3_SCK/I2S3_CK,  USART3_TX,  UART4_TX, SDIO_D2,  DCMI_D8, LCD_R2,  EVENTOUT", 79 PC11 (io) "I2S3ext_SD,  SPI3_MISO,  USART3_RX,  UART4_RX, SDIO_D3,  DCMI_D4, EVENTOUT", 80 PC12 (io) "SPI3_MOSI/I2S3_SD,  USART3_CK,  UART5_TX, SDIO_CK,  DCMI_D9, EVENTOUT", 81 PD0 (io) "CAN1_RX, FMC_D2,  EVENTOUT", 82 PD1 (io) "CAN1_TX, FMC_D3,  EVENTOUT", 83 PD2 (io) "TIM3_ETR,  UART5_RX,  SDIO_CMD,  DCMI_D11,  EVENTOUT", 84 PD3 (io) "SPI2_SCK/I2S2_CK,  USART2_CTS,  FMC_CLK, DCMI_D5,  LCD_G7, EVENTOUT", 85 PD4 (io) "USART2_RTS,  FMC_NOE,  EVENTOUT", 86 PD5 (io) "USART2_TX,  FMC_NWE,  EVENTOUT", 87 PD6 (io) "SPI3_MOSI/I2S3_SD,  SAI1_SD_A,  USART2_RX,  FMC_NWAIT,  DCMI_D10, LCD_B2,  EVENTOUT", 88 PD7 (io) "USART2_CK,  FMC_NE1/FMC_NCE2,  EVENTOUT", 89 PB3 (JTDO/TRACE SWO) (io) "JTDO/TRACESWO,  TIM2_CH2, SPI1_SCK,  SPI3_SCK/I2S3_CK,  EVENTOUT", 90 PB4  (NJTRST) (io) "NJTRST, TIM3_CH1,  SPI1_MISO,  SPI3_MISO,  I2S3ext_SD,  EVENTOUT", 91 PB5 (io) "TIM3_CH2,  I2C1_SMBA,  SPI1_MOSI,  SPI3_MOSI/I2S3_SD,  CAN2_RX,  OTG_HS_ULPI_D7,  ETH_PPS_OUT,  FMC_SDCKE1,  DCMI_D10,  EVENTOUT", 92 PB6 (io) "TIM4_CH1, I2C1_SCL,  USART1_TX,  CAN2_TX,  FMC_SDNE1,  DCMI_D5, EVENTOUT", 93 PB7 (io) "TIM4_CH2, I2C1_SDA,  USART1_RX, FMC_NL,  DCMI_VSYNC,  EVENTOUT", 94 BOOT0 (in), 95 PB8 (io) "TIM4_CH3,  TIM10_CH1,  I2C1_SCL, CAN1_RX,  ETH_MII_TXD3,  SDIO_D4, DCMI_D6,  LCD_B6, EVENTOUT", 96 PB9 (io) "TIM4_CH4,  TIM11_CH1,  I2C1_SDA,  SPI2_NSS/I2S2_WS,  CAN1_TX, SDIO_D5,  DCMI_D7, LCD_B7,  EVENTOUT", 97 PE0 (io) "TIM4_ETR,  UART8_RX,  FMC_NBL0, DCMI_D2,  EVENTOUT", 98 PE1 (io) "UART8_Tx,  FMC_NBL1, DCMI_D3,  EVENTOUT"
part B pins: 6 VBAT (power), 10 VSS (power), 11 VDD (power), 19 VDD (power), 20 VSSA (power), 21 VREF+, 22 VDDA, 27 VSS (power), 28 VDD (power), 49 VCAP_1, 50 VDD (power), 73 VCAP_2, 74 VSS (power), 75 VDD (power), 99 VSS (power), 100 VDD (power)

## STM32F437VG
designator U?
IC MCU 32BIT 1MB FLASH 100LQFP; Manufacturer PartNum: STM32F437VGT6; Manufacturer: STMicroelectronics; Digikey ref: 497-14588-ND
footprint STM-LQFP100_N (Thin QFP, 100-Leads, Body 14x14mm, Pitch 0.5mm, IPC Medium Density)
part A pins: 1 PE2 (io) "TRACECLK,  SPI4_SCK,  SAI1_MCLK_A,  ETH_MII_TXD3,  FMC_A23, EVENTOUT", 2 PE3 (io) "TRACED0,  SAI1_SD_B, FMC_A19,  EVENTOUT", 3 PE4 (io) "TRACED1, SPI4_NSS,  SAI1_FS_A, FMC_A20,  DCMI_D4, LCD_B0,  EVENTOUT", 4 PE5 (io) "TRACED2, TIM9_CH1,  SPI4_MISO,  SAI1_SCK_A,  FMC_A21, DCMI_D6,  LCD_G0, EVENTOUT", 5 PE6 (io) "TRACED3, TIM9_CH2,  SPI4_MOSI,  SAI1_SD_A, FMC_A22,  DCMI_D7, LCD_G1,  EVENTOUT", 7 PC13 (io) "EVENTOUT", 8 PC14-OSC32_IN (io) "EVENTOUT", 9 PC15-OSC32_OUT (io) "EVENTOUT", 12 PH0-OSC_IN (io) "EVENTOUT", 13 PH1-OSC_OUT (io) "EVENTOUT", 14 NRST (io), 15 PC0 (io) "OTG_HS_ULPI_STP,  FMC_SDNWE,  EVENTOUT", 16 PC1 (io) "ETH_MDC,  EVENTOUT", 17 PC2 (io) "SPI2_MISO,  I2S2ext_SD,  OTG_HS_ULPI_DIR,  ETH_MII_TXD2,  FMC_SDNE0,  EVENTOUT", 18 PC3 (io) "SPI2_MOSI/I2S2_SD,  OTG_HS_ULPI_NXT,  ETH_MII_TX_CLK,  FMC_SDCKE0,  EVENTOUT", 23 PA0-WKUP (io) "TIM2_CH1/TIM2_ETR,  TIM5_CH1, TIM8_ETR,  USART2_CTS,  UART4_TX,  ETH_MII_CRS,  EVENTOUT", 24 PA1 (io) "TIM2_CH2, TIM5_CH2,  USART2_RTS,  UART4_RX,  ETH_MII_RX_CLK/ETH  _RMII_REF_CLK,  EVENTOUT", 25 PA2 (io) "TIM2_CH3, TIM5_CH3,  TIM9_CH1,  USART2_TX,  ETH_MDIO,  EVENTOUT", 26 PA3 (io) "TIM2_CH4, TIM5_CH4,  TIM9_CH2,  USART2_RX,  OTG_HS_ULPI_D0,  ETH_MII_COL,  LCD_B5, EVENTOUT", 29 PA4 (io) "SPI1_NSS,  SPI3_NSS/I2S3_WS,  USART2_CK,  OTG_HS_SOF,  DCMI_HSYNC,  LCD_VSYNC,  EVENTOUT", 30 PA5 (io) "TIM2_CH1/TIM2_ETR,  TIM8_CH1N,  SPI1_SCK,  OTG_HS_ULPI_CK,  EVENTOUT", 31 PA6 (io) "TIM1_BKIN,  TIM3_CH1,  TIM8_BKIN,  SPI1_MISO,  TIM13_CH1,  DCMI_PIXCLK,  LCD_G2, EVENTOUT", 32 PA7 (io) "TIM1_CH1N,  TIM3_CH2,  TIM8_CH1N,  SPI1_MOSI,  TIM14_CH1,  ETH_MII_RX_DV/ETH_  RMII_CRS_DV,  EVENTOUT", 33 PC4 (io) "ETH_MII_RXD0/ETH_  RMII_RXD0,  EVENTOUT", 34 PC5 (io) "ETH_MII_RXD1/ETH_  RMII_RXD1,  EVENTOUT", 35 PB0 (io) "TIM1_CH2N,  TIM3_CH3,  TIM8_CH2N, LCD_R3,  OTG_HS_ULPI_D1,  ETH_MII_RXD2,  EVENTOUT", 36 PB1 (io) "TIM1_CH3N,  TIM3_CH4,  TIM8_CH3N, LCD_R6,  OTG_HS_ULPI_D2,  ETH_MII_RXD3,  EVENTOUT", 37 PB2-BOOT1 (io) "TIM1_CH3N,  TIM3_CH4,  TIM8_CH3NEVENTOUT", 38 PE7 (io) "TIM1_ETR, UART7_Rx,  FMC_D4, EVENTOUT", 39 PE8 (io) "TIM1_CH1N,  UART7_Tx, FMC_D5,  EVENTOUT", 40 PE9 (io) "TIM1_CH1, FMC_D6,  EVENTOUT", 41 PE10 (io) "TIM1_CH2N, FMC_D7,  EVENTOUT", 42 PE11 (io) "TIM1_CH2, SPI4_NSS,  FMC_D8, LCD_G3,  EVENTOUT", 43 PE12 (io) "TIM1_CH3N,  SPI4_SCK, FMC_D9,  LCD_B4, EVENTOUT", 44 PE13 (io) "TIM1_CH3,  SPI4_MISO, FMC_D10,  LCD_DE, EVENTOUT", 45 PE14 (io) "TIM1_CH4,  SPI4_MOSI, FMC_D11,  LCD_CLK, EVENTOUT", 46 PE15 (io) "TIM1_BKIN, FMC_D12,  LCD_R7, EVENTOUT", 47 PB10 (io) "TIM2_CH3, I2C2_SCL,  SPI2_SCK/I2S2_CK,  USART3_TX,  OTG_HS_ULPI_D3,  ETH_MII_RX_ER,  LCD_G4, EVENTOUT", 48 PB11 (io) "TIM2_CH4, I2C2_SDA,  USART3_RX,  OTG_HS_ULPI_D4,  ETH_MII_TX_EN/ETH_  RMII_TX_EN, LCD_G5,  EVENTOUT", 51 PB12 (io) "TIM1_BKIN,  I2C2_SMBA,  SPI2_NSS/I2S2_WS,  USART3_CK,  CAN2_RX,  OTG_HS_ULPI_D5,  ETH_MII_TXD0/ETH_R  MII_TXD0,  OTG_HS_ID,  EVENTOUT", 52 PB13 (io) "TIM1_CH1N,  SPI2_SCK/I2S2_CK,  USART3_CTS,  CAN2_TX,  OTG_HS_ULPI_D6,  ETH_MII_TXD1/ETH_R  MII_TXD1, EVENTOUT", 53 PB14 (io) "TIM1_CH2N,  TIM8_CH2N,  SPI2_MISO,  I2S2ext_SD,  USART3_RTS,  TIM12_CH1,  OTG_HS_DM,  EVENTOUT", 54 PB15 (io) "RTC_REFIN,  TIM1_CH3N,  TIM8_CH3N,  SPI2_MOSI/I2S2_SD,  TIM12_CH2,  OTG_HS_DP,  EVENTOUT", 55 PD8 (io) "USART3_TX,  FMC_D13, EVENTOUT", 56 PD9 (io) "USART3_RX,  FMC_D14, EVENTOUT", 57 PD10 (io) "USART3_CK,  FMC_D15, LCD_B3,  EVENTOUT", 58 PD11 (io) "USART3_CTS,  FMC_A16, EVENTOUT", 59 PD12 (io) "TIM4_CH1,  USART3_RTS,  FMC_A17, EVENTOUT", 60 PD13 (io) "TIM4_CH2, FMC_A18,  EVENTOUT", 61 PD14 (io) "TIM4_CH3, FMC_D0,  EVENTOUT", 62 PD15 (io) "TIM4_CH4, FMC_D1,  EVENTOUT", 63 PC6 (io) "TIM3_CH1, TIM8_CH1,  I2S2_MCK,  USART6_TX,  SDIO_D6, DCMI_D0,  LCD_HSYNC,  EVENTOUT", 64 PC7 (io) "TIM3_CH2, TIM8_CH2,  I2S3_MCK,  USART6_RX,  SDIO_D7, DCMI_D1,  LCD_G6, EVENTOUT", 65 PC8 (io) "TIM3_CH3, TIM8_CH3,  USART6_CK,  SDIO_D0, DCMI_D2,  EVENTOUT", 66 PC9 (io) "MCO2, TIM3_CH4,  TIM8_CH4, I2C3_SDA,  I2S_CKIN, SDIO_D1,  DCMI_D3, EVENTOUT", 67 PA8 (io) "MCO1, TIM1_CH1,  I2C3_SCL,  USART1_CK,  OTG_FS_SOF,  LCD_R6, EVENTOUT", 68 PA9 (io) "TIM1_CH2,  I2C3_SMBA,  USART1_TX,  DCMI_D0, EVENTOUT", 69 PA10 (io) "TIM1_CH3,  USART1_RX,  OTG_FS_ID,  DCMI_D1, EVENTOUT", 70 PA11 (io) "TIM1_CH4,  USART1_CTS,  CAN1_RX, LCD_R4,  OTG_FS_DM,  EVENTOUT", 71 PA12 (io) "TIM1_ETR,  USART1_RTS,  CAN1_TX, LCD_R5,  OTG_FS_DP,  EVENTOUT", 72 PA13 (JTMS-SWDIO) (io) "JTMS-SWDIO,  EVENTOUT", 76 PA14 (JTCK-SWCLK) (io) "JTCK-SWCLK/  EVENTOUT", 77 PA15 (JTDI) (io) "JTDI,  TIM2_CH1/TIM2_ETR,  SPI1_NSS,  SPI3_NSS/I2S3_WS,  EVENTOUT", 78 PC10 (io) "SPI3_SCK/I2S3_CK,  USART3_TX,  UART4_TX, SDIO_D2,  DCMI_D8, LCD_R2,  EVENTOUT", 79 PC11 (io) "I2S3ext_SD,  SPI3_MISO,  USART3_RX,  UART4_RX, SDIO_D3,  DCMI_D4, EVENTOUT", 80 PC12 (io) "SPI3_MOSI/I2S3_SD,  USART3_CK,  UART5_TX, SDIO_CK,  DCMI_D9, EVENTOUT", 81 PD0 (io) "CAN1_RX, FMC_D2,  EVENTOUT", 82 PD1 (io) "CAN1_TX, FMC_D3,  EVENTOUT", 83 PD2 (io) "TIM3_ETR,  UART5_RX,  SDIO_CMD,  DCMI_D11,  EVENTOUT", 84 PD3 (io) "SPI2_SCK/I2S2_CK,  USART2_CTS,  FMC_CLK, DCMI_D5,  LCD_G7, EVENTOUT", 85 PD4 (io) "USART2_RTS,  FMC_NOE,  EVENTOUT", 86 PD5 (io) "USART2_TX,  FMC_NWE,  EVENTOUT", 87 PD6 (io) "SPI3_MOSI/I2S3_SD,  SAI1_SD_A,  USART2_RX,  FMC_NWAIT,  DCMI_D10, LCD_B2,  EVENTOUT", 88 PD7 (io) "USART2_CK,  FMC_NE1/FMC_NCE2,  EVENTOUT", 89 PB3 (JTDO/TRACE SWO) (io) "JTDO/TRACESWO,  TIM2_CH2, SPI1_SCK,  SPI3_SCK/I2S3_CK,  EVENTOUT", 90 PB4  (NJTRST) (io) "NJTRST, TIM3_CH1,  SPI1_MISO,  SPI3_MISO,  I2S3ext_SD,  EVENTOUT", 91 PB5 (io) "TIM3_CH2,  I2C1_SMBA,  SPI1_MOSI,  SPI3_MOSI/I2S3_SD,  CAN2_RX,  OTG_HS_ULPI_D7,  ETH_PPS_OUT,  FMC_SDCKE1,  DCMI_D10,  EVENTOUT", 92 PB6 (io) "TIM4_CH1, I2C1_SCL,  USART1_TX,  CAN2_TX,  FMC_SDNE1,  DCMI_D5, EVENTOUT", 93 PB7 (io) "TIM4_CH2, I2C1_SDA,  USART1_RX, FMC_NL,  DCMI_VSYNC,  EVENTOUT", 94 BOOT0 (in), 95 PB8 (io) "TIM4_CH3,  TIM10_CH1,  I2C1_SCL, CAN1_RX,  ETH_MII_TXD3,  SDIO_D4, DCMI_D6,  LCD_B6, EVENTOUT", 96 PB9 (io) "TIM4_CH4,  TIM11_CH1,  I2C1_SDA,  SPI2_NSS/I2S2_WS,  CAN1_TX, SDIO_D5,  DCMI_D7, LCD_B7,  EVENTOUT", 97 PE0 (io) "TIM4_ETR,  UART8_RX,  FMC_NBL0, DCMI_D2,  EVENTOUT", 98 PE1 (io) "UART8_Tx,  FMC_NBL1, DCMI_D3,  EVENTOUT"
part B pins: 6 VBAT (power), 10 VSS (power), 11 VDD (power), 19 VDD (power), 20 VSSA (power), 21 VREF+, 22 VDDA, 27 VSS (power), 28 VDD (power), 49 VCAP_1, 50 VDD (power), 73 VCAP_2, 74 VSS (power), 75 VDD (power), 99 VSS (power), 100 VDD (power)

## STM32L151C6T6
designator U?
Digikey ref: 497-11487-ND
footprint LQFP48 (Thin QFP, 48-Leads, Body 7x7mm, Pitch 0.5mm, IPC Medium Density)
part A pins: 2 PC13-WKUP2 (io) "PC13-WKUP2/PC13/RTC_TAMP1/RTC_TS/RTC_OUT/WKUP2", 3 PC14-OSC32_IN (io) "PC14-OSC32_IN/PC14/OSC32_IN", 4 PC15-OSC32_OUT (io) "PC15-OSC32_OUT/PC15/OSC32_OUT", 5 PH0-OSC_IN (io) "PH0-OSC_IN/PH0/OSC_IN", 6 PH1-OSC_OUT (io) "PH1-OSC_OUT/PH1/OSC_OUT", 7 NRST (io), 10 PA0-WKUP1 (io) "PA0-WKUP1/PA0/WKUP1/USART2_CTS/ADC_IN0/TIM2_CH1_ETR/COMP1_INP", 11 PA1 (io) "PA1/USART2_RTS/ADC_IN1/TIM2_CH2/LCD_SEG0/COMP1_INP", 12 PA2 (io) "PA2/USART2_TX/ADC_IN2/TIM2_CH3/TIM9_CH1/LCD_SEG1/COMP1_INP", 13 PA3 (io) "PA3/USART2_RX/ADC_IN3/TIM2_CH4/TIM9_CH2/LCD_SEG2/COMP1_INP", 14 PA4 (io) "PA4/SPI1_NSS/USART2_CK/ADC_IN4/DAC_OUT1/COMP1_INP", 15 PA5 (io) "PA5/SPI1_SCK/ADC_IN5/DAC_OUT2/TIM2_CH1_ETR/COMP1_INP", 16 PA6 (io) "PA6/SPI1_MISO/ADC_IN6/TIM3_CH1/LCD_SEG3/TIM10_CH1/COMP1_INP", 17 PA7 (io) "PA7/SPI1_MOSI/ADC_IN7/TIM3_CH2/LCD_SEG4/TIM11_CH1/COMP1_INP", 18 PB0 (io) "PB0/ADC_IN8/TIM3_CH3/LCD_SEG5/COMP1_INP/VREF_OUT", 19 PB1 (io) "PB1/ADC_IN9/TIM3_CH4/LCD_SEG6/COMP1_INP/VREF_OUT", 20 PB2 (io) "PB2/BOOT1", 21 PB10 (io) "PB10/I2C2_SCL/USART3_TX/TIM2_CH3/LCD_SEG10", 22 PB11 (io) "PB11/I2C2_SDA/USART3_RX/TIM2_CH4/LCD_SEG11", 25 PB12 (io) "PB12/SPI2_NSS/I2C2_SMBA/USART3_CK/LCD_SEG12/ADC_IN18/COMP1_INP/TIM10_CH1", 26 PB13 (io) "PB13/SPI2_SCK/USART3_CTS/LCD_SEG13/ADC_IN19/COMP1_INP/TIM9_CH1", 27 PB14 (io) "PB14/SPI2_MISO/USART3_RTS/LCD_SEG14/ADC_IN20/COMP1_INP/TIM9_CH2", 28 PB15 (io) "PB15/SPI2_MOSI/LCD_SEG15/ADC_IN21/COMP1_INP/TIM11_CH1/RTC_REFIN", 29 PA8 (io) "PA8/USART1_CK/MCO/LCD_COM0", 30 PA9 (io) "PA9/USART1_TX/LCD_COM1", 31 PA10 (io) "PA10/USART1_RX/LCD_COM2", 32 PA11 (io) "PA11/USART1_CTS/USB_DM/SPI1_MISO", 33 PA12 (io) "PA12/USART1_RTS/USB_DP/SPI1_MOSI", 34 PA13 (io) "PA13/JTMS/SWDAT", 37 PA14 (io) "PA14/JTCK/SWCLK", 38 PA15 (io) "PA15/JTDI/TIM2_CH1_ETR/SPI1_NSS/LCD_SEG17", 39 PB3 (io) "PB3/JTDO/TIM2_CH2/SPI1_SCK/COMP2_INM/LCD_SEG7", 40 PB4 (io) "PB4/NJTRST/TIM3_CH1/SPI1_MISO/COMP2_INP/LCD_SEG8", 41 PB5 (io) "PB5/I2C1_SMBA/TIM3_CH2/SPI1_MOSI/COMP2_INP/LCD_SEG9", 42 PB6 (io) "PB6/I2C1_SCL/TIM4_CH1/USART1_TX", 43 PB7 (io) "PB7/I2C1_SDA/TIM4_CH2/USART1_RX/PVD_IN", 44 BOOT0 (in), 45 PB8 (io) "PB8/TIM4_CH3/I2C1_SCL/LCD_SEG16/TIM10_CH1", 46 PB9 (io) "PB9/TIM4_CH4/I2C1_SDA/LCD_COM3/TIM11_CH1"
part B pins: 1 VLCD (power), 8 VSSA (power), 9 VDDA (power), 23 VSS_1 (power), 24 VDD_1 (power), 35 VSS_2 (power), 36 VDD_2 (power), 47 VSS_3 (power), 48 VDD_3 (power)

## STM32L151RBT6
designator U
Digikey ref: 497-11193-ND; Farnell ref: 2060933
footprint LQFP64 (Thin QFP, 64-Leads, Body 10x10mm, Pitch 0.5mm, IPC Medium Density)
part A pins: 2 PC13-RTC_AF1-WKUP2 (io), 3 PC14-OSC32_IN (io), 4 PC15-OSC32_OUT (io), 5 PH0-OSC_IN (io), 6 PH1-OSC_OUT (io), 7 NRST (io), 8 PC0 (io), 9 PC1 (io), 10 PC2 (io), 11 PC3 (io), 14 PA0-WKUP1 (io), 15 PA1 (io), 16 PA2 (io), 17 PA3 (io), 20 PA4 (io), 21 PA5 (io), 22 PA6 (io), 23 PA7 (io), 24 PC4 (io), 25 PC5 (io), 26 PB0 (io), 27 PB1 (io), 28 PB2 (io), 29 PB10 (io), 30 PB11 (io), 33 PB12 (io), 34 PB13 (io), 35 PB14 (io), 36 PB15 (io), 37 PC6 (io), 38 PC7 (io), 39 PC8 (io), 40 PC9 (io), 41 PA8 (io), 42 PA9 (io), 43 PA10 (io), 44 PA11 (io), 45 PA12 (io), 46 PA13 (io), 49 PA14 (io), 50 PA15 (io), 51 PC10 (io), 52 PC11 (io), 53 PC12 (io), 54 PD2 (io), 55 PB3 (io), 56 PB4 (io), 57 PB5 (io), 58 PB6 (io), 59 PB7 (io), 60 BOOT0 (in), 61 PB8 (io), 62 PB9 (io)
part B pins: 1 RES (power) "Connect to VDD", 12 VSSA (power), 13 VDDA (power), 18 VSS_4 (power), 19 VDD_4 (power), 31 VSS_1 (power), 32 VDD_1 (power), 47 VSS_2 (power), 48 VDD_2 (power), 63 VSS_3 (power), 64 VDD_3 (power)

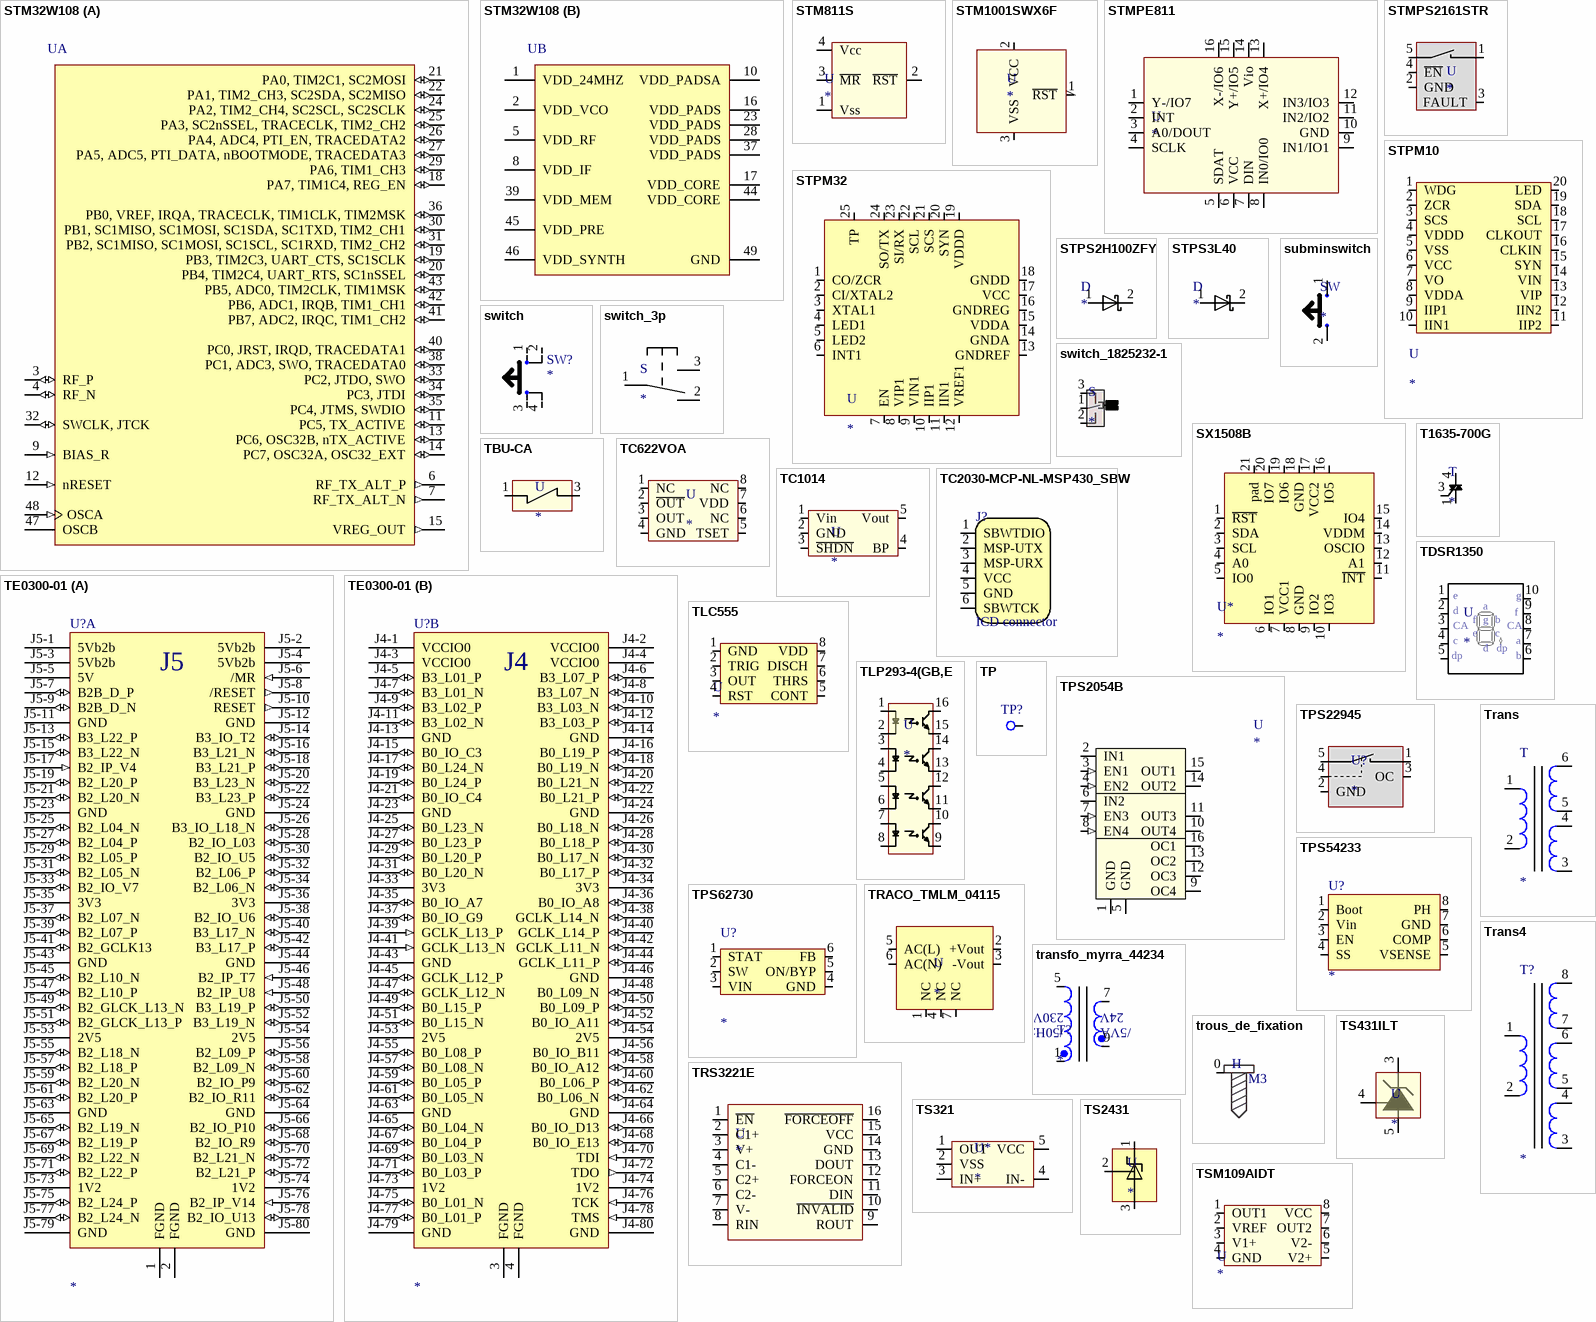
[diagram p16: symbols STM32W108 to TSM109AIDT]

## STM32W108
designator U
Farnell ref: 1892383; Digikey ref: 497-11411-1-ND
footprint UFQFPN48 (QFPN 7x7mm pitch 0.5mm)
footprint VFQFPN48 (QFPN 7x7mm pitch 0.5mm)
part A pins: 3 RF_P (io), 4 RF_N (io), 6 RF_TX_ALT_P (out), 7 RF_TX_ALT_N (out), 9 BIAS_R (in), 11 PC5, TX_ACTIVE (io), 12 nRESET (in), 13 PC6, OSC32B, nTX_ACTIVE (io), 14 PC7, OSC32A, OSC32_EXT (io), 15 VREG_OUT (out), 18 PA7, TIM1C4, REG_EN (io), 19 PB3, TIM2C3, UART_CTS, SC1SCLK (io), 20 PB4, TIM2C4, UART_RTS, SC1nSSEL (io), 21 PA0, TIM2C1, SC2MOSI (io), 22 PA1, TIM2_CH3, SC2SDA, SC2MISO (io), 24 PA2, TIM2_CH4, SC2SCL, SC2SCLK (io), 25 PA3, SC2nSSEL, TRACECLK, TIM2_CH2 (io), 26 PA4, ADC4, PTI_EN, TRACEDATA2 (io), 27 PA5, ADC5, PTI_DATA, nBOOTMODE, TRACEDATA3 (io), 29 PA6, TIM1_CH3 (io), 30 PB1, SC1MISO, SC1MOSI, SC1SDA, SC1TXD, TIM2_CH1 (io), 31 PB2, SC1MISO, SC1MOSI, SC1SCL, SC1RXD, TIM2_CH2 (io), 32 SWCLK, JTCK (io), 33 PC2, JTDO, SWO (io), 34 PC3, JTDI (io), 35 PC4, JTMS, SWDIO (io), 36 PB0, VREF, IRQA, TRACECLK, TIM1CLK, TIM2MSK (io), 38 PC1, ADC3, SWO, TRACEDATA0 (io), 40 PC0, JRST, IRQD, TRACEDATA1 (io), 41 PB7, ADC2, IRQC, TIM1_CH2 (io), 42 PB6, ADC1, IRQB, TIM1_CH1 (io), 43 PB5, ADC0, TIM2CLK, TIM1MSK (io), 47 OSCB, 48 OSCA (in)
part B pins: 1 VDD_24MHZ (power), 2 VDD_VCO (power), 5 VDD_RF (power), 8 VDD_IF (power), 10 VDD_PADSA (power), 16 VDD_PADS (power), 17 VDD_CORE (power), 23 VDD_PADS (power), 28 VDD_PADS (power), 37 VDD_PADS (power), 39 VDD_MEM (power), 44 VDD_CORE (power), 45 VDD_PRE (power), 46 VDD_SYNTH (power), 49 GND (power)

## STM811S
designator U
Digikey ref: 497-3348-1-ND; Farnell ref: 8690529
footprint SOT143-4 (SOT143, 4-Leads, Body 2.9x1.3mm, Pitch 1.9mm, Lead Span 2.4mm, IPC High Density)
pins: 1 Vss, 2 ~{RST}, 3 ~{MR}, 4 Vcc

## STM1001SWX6F
designator U
IC RESET CIRCUIT 2.93V SOT-23; Manufacturer PartNum: STM1001SWX6F; Manufacturer: STMicroelectronics
footprint SOT23 (SOT23, 2.9x1.3mm, 3 leads)
pins: 1 ~{RST}, 2 VCC, 3 VSS

## STMPE811
designator U
Digikey ref: 497-8387-1-ND
footprint QFN16 (QFN16, case 3x3x1mm, pitch 0.5mm)
pins: 1 Y-/IO7, 2 INT, 3 A0/DOUT, 4 SCLK, 5 SDAT, 6 VCC, 7 DIN, 8 IN0/IO0, 9 IN1/IO1, 10 GND, 11 IN2/IO2, 12 IN3/IO3, 13 X+/IO4, 14 Vio, 15 Y+/IO5, 16 X-/IO6

## STMPS2161STR
designator U
Digikey ref: 497-6936-1-ND
footprint SOT23-5 (SOT23, 5 pins, pitch 0.95mm, case 3x1.6mm)
pins: 1 Vout, 2 GND (power), 3 FAULT (out), 4 ~{EN} (in), 5 Vin

## STPM10
designator U
Manufacturer: STMicroelectronics; Manufacturer PartNum: STPM10; Digikey ref: 497-11291-1-ND
footprint TSSOP20 (SOP, 20-Leads, Body 6.6x4.5mm, Pitch 0.65mm, IPC Medium Density)
pins: 1 WDG, 2 ZCR, 3 SCS, 4 VDDD, 5 VSS, 6 VCC, 7 VO, 8 VDDA, 9 IIP1, 10 IIN1, 11 IIP2, 12 IIN2, 13 VIP, 14 VIN, 15 SYN, 16 CLKIN, 17 CLKOUT, 18 SCL, 19 SDA, 20 LED

## STPM32
designator U
Manufacturer: STMicroelectronics; Manufacturer PartNum: STPM32; Digikey ref: 497-15634-1-ND
footprint QFN24 (QFN 24 pins, 4x4mm, 0.5mm)
pins: 1 CO/ZCR, 2 CI/XTAL2, 3 XTAL1, 4 LED1, 5 LED2, 6 INT1, 7 EN, 8 VIP1, 9 VIN1, 10 IIP1, 11 IIN1, 12 VREF1, 13 GNDREF, 14 GNDA, 15 VDDA, 16 GNDREG, 17 VCC, 18 GNDD, 19 VDDD, 20 SYN, 21 SCS, 22 SCL, 23 SI/RX, 24 SO/TX, 25 TP

## STPS2H100ZFY
designator D
DIODE SCHOTTKY 100V 2A SOD123F; Manufacturer PartNum: STPS2H100ZFY; Manufacturer: STMicroelectronics; Vf@IFmax: 0.8V@2A; ref2: Nexperia PMEG3020EGWJ; ref 3: Diodes Inc. MBR230S1F-7; Digikey ref: 497-17158-1-ND; IFmax: 2A
footprint SOD123 (SOD123 2.6x1.6mm, total legth 3.5mm, lead width 0.5mm)
pins: 1 A, 2 K

## STPS3L40
designator D
Manufacturer PartNum: STPS3L40UF; Manufacturer: STMicroelectronics; Vf@IFmax: 0.5V; IFmax: 3A; Digikey ref: 497-8036-1-ND
footprint SMB_FLAT (SMB flat ST ECOPACK footprint, case 3.95x4.6mm)
pins: 1 A, 2 K

## subminswitch
designator SW
subminiature tact switch for SMT; Farnell ref: 1437634; Price: 0.46 Euro/1pce
footprint microswitch (subminiature tact switch for SMT, case 6x4mm, total 7.3x4mm)
pins: 1, 2

## switch
designator SW?
Farnell ref: 177807
footprint Switch_b3S
footprint microswitch_PTS810 (subminiature tact switch for SMT, case 4.6x3.2mm, total 5.2x3.2mm)
pins: 1, 2, 3, 4

## switch_3p
designator S
switch, 3 positions, ON-OFF-ON
footprint HDR3_large (3 pads connection, 2.54mm, hole size 1mm)
pins: 1, 2, 3

## switch_1825232-1
designator S
Slide Switch SPDT Through Hole, Right Angle; Manufacturer PartNum: 1825232-1; Manufacturer: TE Connectivity; Digikey ref: A107673-ND
footprint 1825232-1 (Slide Switch SPDT Through Hole, Right Angle)
pins: 1, 2, 3

## SX1508B
designator U*
Digikey ref: SX1508BIULTRTCT-ND; Farnell ref: *; status: *
footprint QFN20_UT (QFN, 20-Leads, Body 4x4mm, Pitch 0.5mm, IPC Low Density)
pins: 1 ~{RST}, 2 SDA, 3 SCL, 4 A0, 5 IO0, 6 IO1, 7 VCC1, 8 GND, 9 IO2, 10 IO3, 11 ~{INT}, 12 A1, 13 OSCIO, 14 VDDM, 15 IO4, 16 IO5, 17 VCC2, 18 GND, 19 IO6, 20 IO7, 21 pad

## T1635-700G
designator T
TRIAC ALTERNISTOR 700V 16A D2PAK; Manufacturer: STMicroelectronics; Manufacturer PartNum: T1635-700G-TR; Digikey ref: 497-4433-1-ND
footprint D2PAK (DPAK Single Guage)
pins: 1 A1, 3 G, 4 A2

## TBU-CA
designator U
SURGE SUPP TBU 200MA 650VIMP SMD; Manufacturer PartNum: TBU-CA065-200-WH; Manufacturer: Bourns; Digikey ref: TBU-CA065-200-WHCT-ND
footprint TBU-CA (TBU High speed protectors 6.5x4.0x1mm)
pins: 1 LI/O, 2 NC hidden, 3 LO/I

## TC622VOA
designator U
IC TEMP SNSR PROG 8SOIC; Manufacturer PartNum: TC622VOA; Manufacturer: Microchip; Digikey ref: TC622VOA-ND
footprint soic8 (soic8 CMS 8 leads, pitch 1.27mm)
pins: 1 NC, 2 ~{OUT}, 3 OUT, 4 GND, 5 TSET, 6 NC, 7 VDD, 8 NC

## TC1014
designator U
LDO; Farnell ref: 1331502
footprint DBV005_N (SOT23, 5-Leads, Body 2.9x1.6mm, Pitch 0.95mm, Lead Span 2.8mm, IPC Medium Density)
pins: 1 Vin, 2 GND, 3 ~{SHDN}, 4 BP, 5 Vout

## TC2030-MCP-NL-MSP430_SBW
designator J?, comment ICD connector  (no BOM)
Digikey ref: *
footprint TC2030-MCP-NL (Conector ICD en placa)
footprint TC2030-MCP (Conector ICD en placa)
footprint TC2030-MCP_DOUBLE_SIDED
footprint TC2030-MCP-NL_DOUBLE_SIDED
pins: 1 SBWTDIO, 2 MSP-UTX, 3 MSP-URX, 4 VCC, 5 GND, 6 SBWTCK

## TDSR1350
designator U
Distrelec ref: 6601107
footprint TDSR1350 (Common Anode 7 seg led display)
pins: 1, 2, 3, 4, 5, 6, 7, 8, 9, 10
text: e; g; a; d; f; b; CA; c; dp

## TE0300-01
designator U?
footprint HeaderD17
footprint headerDF17_top_bottom
part A pins: 1 FGND (power), 2 FGND (power), J5-1 5Vb2b (power), J5-2 5Vb2b (power), J5-3 5Vb2b (power), J5-4 5Vb2b (power), J5-5 5V (power), J5-6 /MR (in), J5-7 B2B_D_P (io), J5-8 /RESET (out), J5-9 B2B_D_N (io), J5-10 RESET (out), J5-11 GND (power), J5-12 GND (power), J5-13 B3_L22_P (io), J5-14 B3_IO_T2 (io), J5-15 B3_L22_N (io), J5-16 B3_L21_N (io), J5-17 B2_IP_V4 (in), J5-18 B3_L21_P (io), J5-19 B2_L20_P (io), J5-20 B3_L23_N (io), J5-21 B2_L20_N (io), J5-22 B3_L23_P (io), J5-23 GND (power), J5-24 GND (power), J5-25 B2_L04_N (io), J5-26 B3_IO_L18_N (io), J5-27 B2_L04_P (io), J5-28 B2_IO_L03 (io), J5-29 B2_L05_P (io), J5-30 B2_IO_U5 (io), J5-31 B2_L05_N (io), J5-32 B2_L06_P (io), J5-33 B2_IO_V7 (io), J5-34 B2_L06_N (io), J5-35 3V3 (power), J5-36 3V3 (power), J5-37 B2_L07_N (io), J5-38 B2_IO_U6 (io), J5-39 B2_L07_P (io), J5-40 B3_L17_N (io), J5-41 B2_GCLK13 (io), J5-42 B3_L17_P (io), J5-43 GND (power), J5-44 GND (power), J5-45 B2_L10_N (io), J5-46 B2_IP_T7 (in), J5-47 B2_L10_P (io), J5-48 B2_IP_U8 (in), J5-49 B2_GLCK_L13_N (io), J5-50 B3_L19_P (io), J5-51 B2_GLCK_L13_P (io), J5-52 B3_L19_N (io), J5-53 2V5 (power), J5-54 2V5 (power), J5-55 B2_L18_N (io), J5-56 B2_L09_P (io), J5-57 B2_L18_P (io), J5-58 B2_L09_N (io), J5-59 B2_L20_N (io), J5-60 B2_IO_P9 (io), J5-61 B2_L20_P (io), J5-62 B2_IO_R11 (io), J5-63 GND (power), J5-64 GND (power), J5-65 B2_L19_N (io), J5-66 B2_IO_P10 (io), J5-67 B2_L19_P (io), J5-68 B2_IO_R9 (io), J5-69 B2_L22_N (io), J5-70 B2_L21_N (io), J5-71 B2_L22_P (io), J5-72 B2_L21_P (io), J5-73 1V2 (power), J5-74 1V2 (power), J5-75 B2_L24_P (io), J5-76 B2_IP_V14 (in), J5-77 B2_L24_N (io), J5-78 B2_IO_U13 (io), J5-79 GND (power), J5-80 GND (power)
part B pins: 3 FGND (power), 4 FGND (power), J4-1 VCCIO0 (power), J4-2 VCCIO0 (power), J4-3 VCCIO0 (power), J4-4 VCCIO0 (power), J4-5 B3_L01_P (io), J4-6 B3_L07_P (io), J4-7 B3_L01_N (io), J4-8 B3_L07_N (io), J4-9 B3_L02_P (io), J4-10 B3_L03_N (io), J4-11 B3_L02_N (io), J4-12 B3_L03_P (io), J4-13 GND (power), J4-14 GND (power), J4-15 B0_IO_C3 (io), J4-16 B0_L19_P (io), J4-17 B0_L24_N (io), J4-18 B0_L19_N (io), J4-19 B0_L24_P (io), J4-20 B0_L21_N (io), J4-21 B0_IO_C4 (io), J4-22 B0_L21_P (io), J4-23 GND (power), J4-24 GND (power), J4-25 B0_L23_N (io), J4-26 B0_L18_N (io), J4-27 B0_L23_P (io), J4-28 B0_L18_P (io), J4-29 B0_L20_P (io), J4-30 B0_L17_N (io), J4-31 B0_L20_N (io), J4-32 B0_L17_P (io), J4-33 3V3 (power), J4-34 3V3 (power), J4-35 B0_IO_A7 (io), J4-36 B0_IO_A8 (io), J4-37 B0_IO_G9 (io), J4-38 GCLK_L14_N (io), J4-39 GCLK_L13_P (in), J4-40 GCLK_L14_P (io), J4-41 GCLK_L13_N (in), J4-42 GCLK_L11_N (io), J4-43 GND (power), J4-44 GCLK_L11_P (io), J4-45 GCLK_L12_P (io), J4-46 GND (power), J4-47 GCLK_L12_N (io), J4-48 B0_L09_N (io), J4-49 B0_L15_P (io), J4-50 B0_L09_P (io), J4-51 B0_L15_N (io), J4-52 B0_IO_A11 (io), J4-53 2V5 (power), J4-54 2V5 (power), J4-55 B0_L08_P (io), J4-56 B0_IO_B11 (io), J4-57 B0_L08_N (io), J4-58 B0_IO_A12 (io), J4-59 B0_L05_P (io), J4-60 B0_L06_P (io), J4-61 B0_L05_N (io), J4-62 B0_L06_N (io), J4-63 GND (power), J4-64 GND (power), J4-65 B0_L04_N (io), J4-66 B0_IO_D13 (io), J4-67 B0_L04_P (io), J4-68 B0_IO_E13 (io), J4-69 B0_L03_N (io), J4-70 TDI (in), J4-71 B0_L03_P (io), J4-72 TDO (out), J4-73 1V2 (power), J4-74 1V2 (power), J4-75 B0_L01_N (io), J4-76 TCK (in), J4-77 B0_L01_P (io), J4-78 TMS (in), J4-79 GND (power), J4-80 GND (power)
2 alternate drawings of the same symbol
part A text: J5
part B text: J4

## TLC555
designator U
IC OSC SGL TIMER 2.1MHZ 8-SOIC; Manufacturer: Texas Intruments; Manufacturer PartNum: TLC555CDR; Digikey ref: 296-1336-1-ND
footprint soic8 (soic8 CMS 8 leads, pitch 1.27mm)
pins: 1 GND, 2 TRIG, 3 OUT, 4 RST, 5 CONT, 6 THRS, 7 DISCH, 8 VDD

## TLP293-4(GB,E
designator U
PHOTOCOUPLER InGaAs IRED & PHOTO-TRANSISTOR 4channels; Digikey ref: TLP293-4(GBE-ND
footprint SOIC16 (case 10.3x4.55mm pitch 1.27mm 16 leads)
pins: 1 IA1, 2 IC1, 3 IA2, 4 IC2, 5 IA3, 6 IC3, 7 IA4, 8 IC4, 9 OE4, 10 OC4, 11 OE3, 12 OC3, 13 OE2, 14 OC2, 15 OE1, 16 OC1

## TP
designator TP?  (value not drawn)  (no BOM)
footprint TP (Test point)
footprint TP_1mm (hole 0.5mm pad 1mm)
footprint cms_pad (testpoint_CMS)
footprint TP_1_5mm (hole 0.5mm pad 1.5mm)
footprint Model Name (Footprint not found)
footprint Edge_PCB_via (half-via)
pins: 1

## TPS2054B
designator U
Digikey ref: 296-16988-1-ND
footprint SO16_N (SOIC, 16-Leads, Body 9.9x3.8mm, Pitch 1.27mm, IPC Medium Density)
pins: 1 GND, 2 IN1, 3 EN1 (in), 4 EN2 (in), 5 GND, 6 IN2, 7 EN3 (in), 8 EN4 (in), 9 OC4, 10 OUT4, 11 OUT3, 12 OC3, 13 OC2, 14 OUT2, 15 OUT1, 16 OC1

## TPS22945
designator U?
TPS22945, SMD switch, 100mA, ron 0.5 ohm; Farnell ref: 1735580
footprint PG-DSO-G5 (smaller SOT23-5 package, pitch 0.65mm, 1.25x2mm box)
pins: 1 Vout, 2 GND (power), 3 OC (out), 4 ON (in), 5 Vin

## TPS54233
designator U?
Farnell ref: 1755639
footprint PG-DSO-8 (DIL8,)
pins: 1 Boot, 2 Vin, 3 EN, 4 SS, 5 VSENSE, 6 COMP, 7 GND, 8 PH

## TPS62730
designator U?
Digikey ref: 296-39458-1-ND
footprint DRY6 (PSON, 6-Leads, Body 1x1.45mm, Pitch 0.5mm, TI Recommended)
pins: 1 STAT, 2 SW, 3 VIN, 4 GND, 5 ON/BYP, 6 FB

## TRACO_TMLM_04115
designator U
TRACO isolated AC/DC 15V 267mA
footprint TMLM04115
pins: 1 NC, 2 +Vout, 3 -Vout, 4 NC, 5 AC(L), 6 AC(N), 7 NC

## Trans
designator T
N: 1:1:1
footprint Trans_3 (transfo home_made 1:1:1)
pins: 1, 2, 3, 4, 5, 6

## Trans4
designator T?
footprint Trans_4
footprint Trans_4_small
pins: 1, 2, 3, 4, 5, 6, 7, 8

## transfo_myrra_44234
designator T?
Farnell ref: 1689085
footprint Trans_myrra_44234
pins: 1, 5, 7, 9
text: 230V; 24V; /50Hz; /5VA

## trous_de_fixation
designator H  value M3  (hidden comment: *)  (no BOM)
footprint Mechanical_hole (board fixing hole, diameter M3)
pins: 0

## TRS3221E
designator U
Digikey ref: 296-22587-2-ND
footprint TSSOP-ST16_N (TSOP, 16-Leads, Body 5x4.4mm, Pitch 0.65mm, IPC Medium Density)
pins: 1 ~{EN}, 2 C1+, 3 V+, 4 C1-, 5 C2+, 6 C2-, 7 V-, 8 RIN, 9 ROUT, 10 ~{INVALID}, 11 DIN, 12 FORCEON, 13 DOUT, 14 GND, 15 VCC, 16 ~{FORCEOFF}

## TS321
designator U*
IC OPAMP GP 800KHZ SOT23-5; Manufacturer PartNum: TS321ILT; Manufacturer: STMicroelectronics; Replacement part: TI LM321MFX/NOPB; Digikey ref: 497-4061-1-ND
footprint SOT23-5 (SOT23, 5 pins, pitch 0.95mm, case 3x1.6mm)
pins: 1 OUT, 2 VSS, 3 IN+, 4 IN-, 5 VCC

## TS431ILT
designator U
voltage reference, adjustable; Farnell ref: 1750209
footprint SOT23-5 (SOT23, 5 pins, pitch 0.95mm, case 3x1.6mm)
pins: 3, 4, 5

## TS2431
designator U
2.5-24V adjustable output voltage; Farnell ref: 1374139
footprint SOT23 (SOT23, 2.9x1.3mm, 3 leads)
pins: 1, 2, 3

## TSM109AIDT
designator U
IC CTRLR DUAL COMP/VREF 8SOIC; Manufacturer: STMicroelectronics; Manufacturer PartNum: TSM109AIDT; Digikey ref: 497-4082-1-ND
footprint soic8 (soic8 CMS 8 leads, pitch 1.27mm)
pins: 1 OUT1, 2 VREF, 3 V1+, 4 GND, 5 V2+, 6 V2-, 7 OUT2, 8 VCC

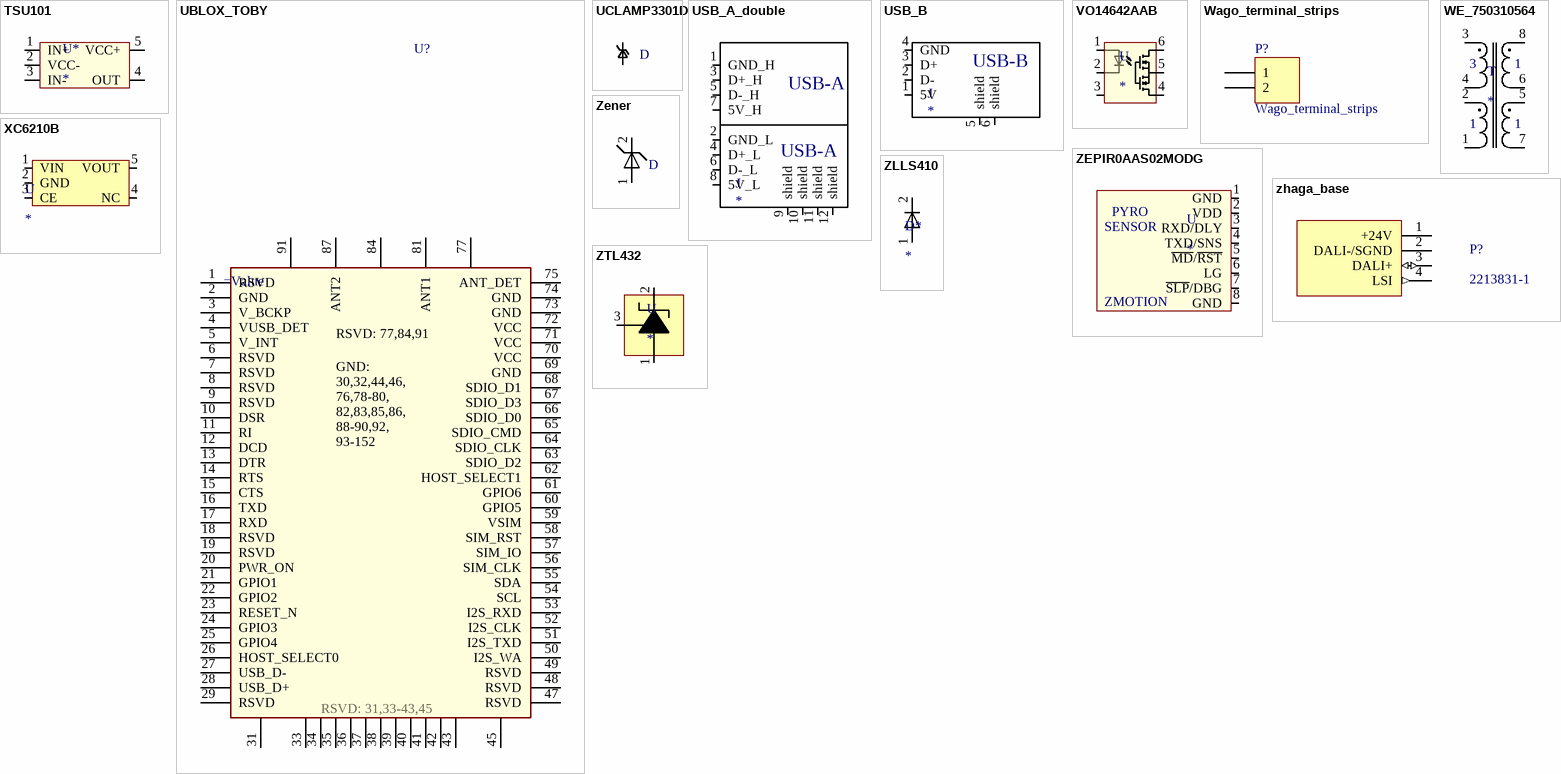
[diagram p17: symbols TSU101 to ZTL432]

## TSU101
designator U*
Digikey ref: 497-13801-1-ND; Farnell ref: *
footprint SOT23-5 (SOT23, 5 pins, pitch 0.95mm, case 3x1.6mm)
pins: 1 IN+, 2 VCC-, 3 IN-, 4 OUT, 5 VCC+

## UBLOX_TOBY
designator U?
TOBY cellular modems; Manufacturer: u-blox; Manufacturer PartNum: TOBY-L210-03S
footprint UBLOX_TOBY (TOBY cellular module)
pins: 1 RSVD, 2 GND, 3 V_BCKP, 4 VUSB_DET, 5 V_INT, 6 RSVD, 7 RSVD, 8 RSVD, 9 RSVD, 10 DSR, 11 RI, 12 DCD, 13 DTR, 14 RTS, 15 CTS, 16 TXD, 17 RXD, 18 RSVD, 19 RSVD, 20 PWR_ON, 21 GPIO1, 22 GPIO2, 23 RESET_N, 24 GPIO3, 25 GPIO4, 26 HOST_SELECT0, 27 USB_D-, 28 USB_D+, 29 RSVD, 30 GND, 31 RSVD, 32 GND, 33 RSVD, 34 RSVD, 35 RSVD, 36 RSVD, 37 RSVD, 38 RSVD, 39 RSVD, 40 RSVD, 41 RSVD, 42 RSVD, 43 RSVD, 44, 45 RSVD, 46, 47 RSVD, 48 RSVD, 49 RSVD, 50 I2S_WA, 51 I2S_TXD, 52 I2S_CLK, 53 I2S_RXD, 54 SCL, 55 SDA, 56 SIM_CLK, 57 SIM_IO, 58 SIM_RST, 59 VSIM, 60 GPIO5, 61 GPIO6, 62 HOST_SELECT1, 63 SDIO_D2, 64 SDIO_CLK, 65 SDIO_CMD, 66 SDIO_D0, 67 SDIO_D3, 68 SDIO_D1, 69 GND, 70 VCC, 71 VCC, 72 VCC, 73 GND, 74 GND, 75 ANT_DET, 76 155, 77 RSVD, 78 156, 79 GND, 80 GND, 81 ANT1, 82 44, 83 46, 84 RSVD, 85 155, 86 156, 87 ANT2, 88 157, 89 157, 90 157, 91 RSVD, 92 GND, 93 GND, 94 GND, 95 GND, 96 GND, 97 GND, 98 GND, 99 GND, 100 GND, 101 GND, 102 GND, 103 GND, 104 GND, 105 GND, 106 GND, 107 GND, 108 GND, 109 GND, 110 GND, 111 GND, 112 GND, 113 GND, 114 GND, 115 GND, 116 GND, 117 GND, 118 GND, 119 GND, 120 GND, 121 GND, 122 GND, 123 GND, 124 GND, 125 GND, 126 GND, 127 GND, 128 GND, 129 GND, 130 GND, 131 GND, 132 GND, 133 GND, 134 GND, 135 GND, 136 GND, 137 GND, 138 GND, 139 GND, 140 GND, 141 GND, 142 GND, 143 GND, 144 GND, 145 GND, 146 GND, 147 GND, 148 GND, 149 GND, 150 GND, 151 GND, 152 GND
text: RSVD: 77,84,91; GND: / 30,32,44,46, / 76,78-80, / 82,83,85,86, / 88-90,92, / 93-152; RSVD: 31,33-43,45

## UCLAMP3301D
designator D  (value not drawn)
Digikey ref: UCLAMP3301DCT-ND
footprint SOD323 (SOD323F 1.8x1.35mm, total legth 2.7mm, lead width 0.4mm)
pins: 1, 2

## USB_A_double
designator J
Digikey ref: ED90063-ND; Farnell ref: 1621545
footprint USB_A_double (stacked 2 USB-A receptacles)
pins: 1 GND_H, 2 GND_L, 3 D+_H, 4 D+_L, 5 D-_H, 6 D-_L, 7 5V_H, 8 5V_L, 9 shield, 10 shield, 11 shield, 12 shield
text: USB-A

## USB_B
designator J
Digikey ref: ED2982-ND
footprint USB_B (USB_B conn., 4 leads. USB2.0)
pins: 1 5V, 2 D-, 3 D+, 4 GND, 5 shield, 6 shield
text: USB-B

## VO14642AAB
designator U
Digikey ref: VO14642AABCT-ND; Farnell ref: *
pins: 1 A, 2 Ca, 3 NC, 4 S', 5 DC, 6 S

## Wago_terminal_strips
designator P?
Header, 2-Pin; Farnell ref: 2102477; Digikey ref: *
footprint WAGO_2060-402/998-404 (WAGO SMD Terminal Strips with Push Buttons, pitch 4mm)
pins: 1, 2

## WE_750310564
designator T
3:1:1:1 transformer; Farnell ref: *; WE_Midcom ref: *
footprint WE_midcomEP10 (wuerth Electronic 3:1:1:1 transformer)
pins: 1, 2, 3, 4, 5, 6, 7, 8

## XC6210B
designator U
Farnell ref: 1057802RL; Digikey ref: 893-1074-1-ND
footprint SOT23-5 (SOT23, 5 pins, pitch 0.95mm, case 3x1.6mm)
pins: 1 VIN, 2 GND, 3 CE, 4 NC, 5 VOUT